# Altium integrated library Xilinx CoolRunner XPLA3.IntLib: 220 symbols (part 6 of 16)
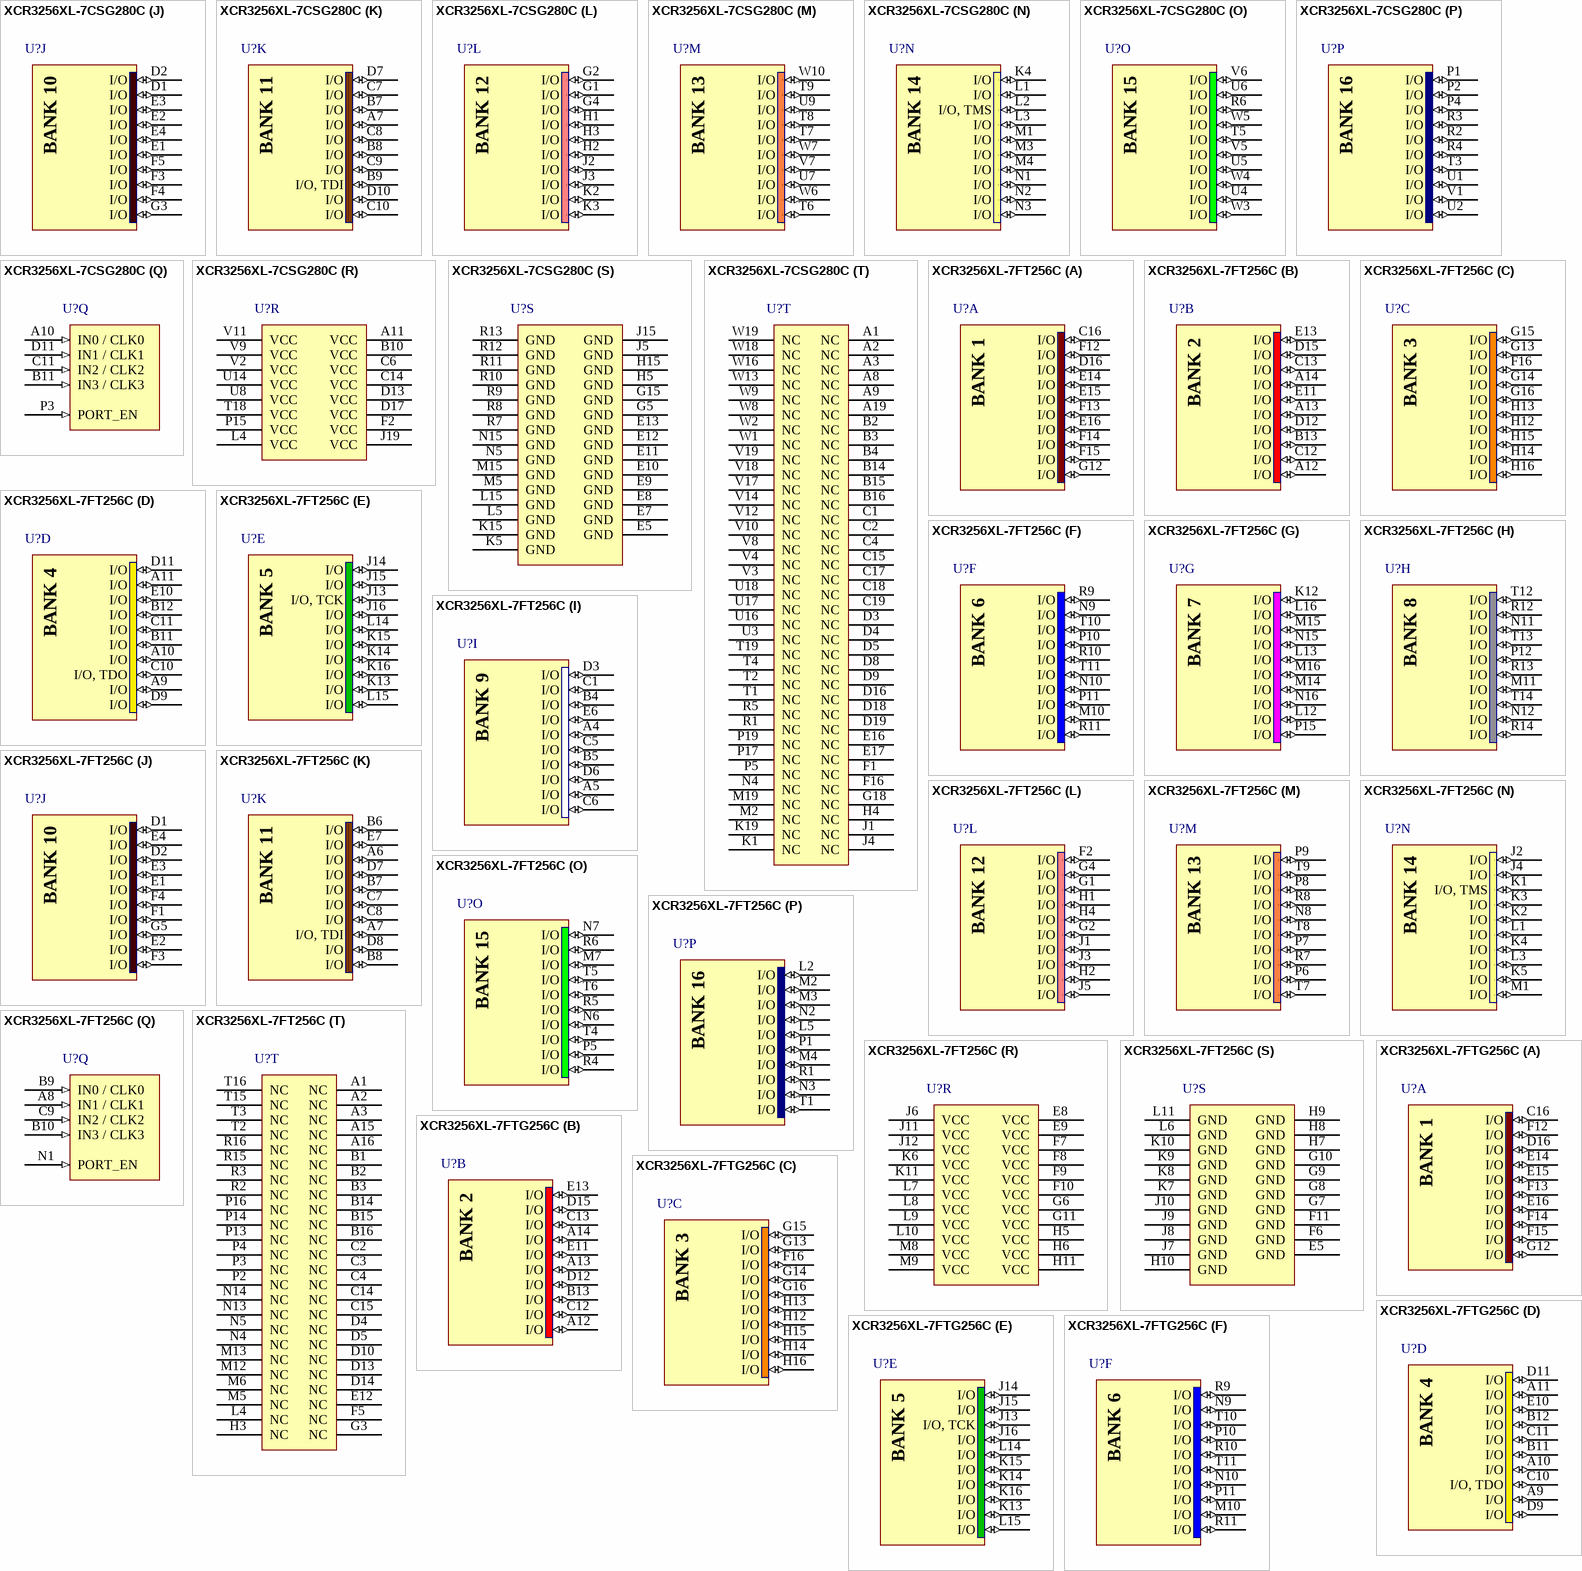
[diagram p88: symbols XCR3256XL-7CSG280C to XCR3256XL-7FTG256C]

## XCR3256XL-7CSG280C
designator U?
CoolRunner XPLA3, 3.3V, 256 Macrocell CPLD, 280-Ball CSBGA, Commercial Grade, Pb-Free; Published: 6-Oct-2005; LatestRevisionDate: 13-Apr-2006; LatestRevisionNote: IPC-7351 Footprint Added.; DatasheetVersion: ver2.7, Mar-2006; PackageVersion: ver1.2.2, Nov-2005; PackageReference: CSG280; Publisher: Altium Limited; PackageDescription: 280-Ball Chip Scale Ball Grid Array (CSG280) - Pb-Free; Code_JEDEC: MO-216-BAL-1 (Depopulated); ComponentLink1Description: Manufacturer Link; ComponentLink1URL: http://www.xilinx.com/products/silicon_solutions/cplds/coolrunner_series/coolrunner_xpla3_cplds/index.htm; ComponentLink2Description: Datasheet; ComponentLink2URL: http://direct.xilinx.com/bvdocs/publications/ds013.pdf
footprint CSG280 (BGA, 280-Leads, Body 16x16mm, Pitch 0.8mm)
3D model XCR3256XL-CS280 (280-Ball Chip Scale Ball Grid Array (CSG280) - Pb-Free)
signal-integrity model XCR3256XL_CS280 (CoolRunner XPLA3)
part A pins: E18 I/O (io), E19 I/O (io), F15 I/O (io), F17 I/O (io), F18 I/O (io), F19 I/O (io), G16 I/O (io), G17 I/O (io), G19 I/O (io), H16 I/O (io)
part B pins: A15 I/O (io), A16 I/O (io), A17 I/O (io), A18 I/O (io), B17 I/O (io), B18 I/O (io), B19 I/O (io), C16 I/O (io), D15 I/O (io), E15 I/O (io)
part C pins: H17 I/O (io), H18 I/O (io), H19 I/O (io), J16 I/O (io), J17 I/O (io), J18 I/O (io), K16 I/O (io), K17 I/O (io), K18 I/O (io), L16 I/O (io)
part D pins: A12 I/O (io), A13 I/O (io), A14 I/O (io), B12 I/O (io), B13 I/O (io), C12 I/O, TDO (io), C13 I/O (io), D12 I/O (io), D14 I/O (io), E14 I/O (io)
part E pins: L17 I/O (io), L18 I/O (io), L19 I/O, TCK (io), M16 I/O (io), M17 I/O (io), M18 I/O (io), N16 I/O (io), N17 I/O (io), N18 I/O (io), N19 I/O (io)
part F pins: T10 I/O (io), T11 I/O (io), T12 I/O (io), U10 I/O (io), U11 I/O (io), U12 I/O (io), U13 I/O (io), V13 I/O (io), W11 I/O (io), W12 I/O (io)
part G pins: P16 I/O (io), P18 I/O (io), R15 I/O (io), R16 I/O (io), R17 I/O (io), R18 I/O (io), R19 I/O (io), T16 I/O (io), T17 I/O (io), U19 I/O (io)
part H pins: R14 I/O (io), T13 I/O (io), T14 I/O (io), T15 I/O (io), U15 I/O (io), V15 I/O (io), V16 I/O (io), W14 I/O (io), W15 I/O (io), W17 I/O (io)
part I pins: A4 I/O (io), A5 I/O (io), A6 I/O (io), B1 I/O (io), B5 I/O (io), B6 I/O (io), C3 I/O (io), C5 I/O (io), D6 I/O (io), E6 I/O (io)
part J pins: D1 I/O (io), D2 I/O (io), E1 I/O (io), E2 I/O (io), E3 I/O (io), E4 I/O (io), F3 I/O (io), F4 I/O (io), F5 I/O (io), G3 I/O (io)
part K pins: A7 I/O (io), B7 I/O (io), B8 I/O (io), B9 I/O, TDI (io), C7 I/O (io), C8 I/O (io), C9 I/O (io), C10 I/O (io), D7 I/O (io), D10 I/O (io)
part L pins: G1 I/O (io), G2 I/O (io), G4 I/O (io), H1 I/O (io), H2 I/O (io), H3 I/O (io), J2 I/O (io), J3 I/O (io), K2 I/O (io), K3 I/O (io)
part M pins: T6 I/O (io), T7 I/O (io), T8 I/O (io), T9 I/O (io), U7 I/O (io), U9 I/O (io), V7 I/O (io), W6 I/O (io), W7 I/O (io), W10 I/O (io)
part N pins: K4 I/O (io), L1 I/O (io), L2 I/O, TMS (io), L3 I/O (io), M1 I/O (io), M3 I/O (io), M4 I/O (io), N1 I/O (io), N2 I/O (io), N3 I/O (io)
part O pins: R6 I/O (io), T5 I/O (io), U4 I/O (io), U5 I/O (io), U6 I/O (io), V5 I/O (io), V6 I/O (io), W3 I/O (io), W4 I/O (io), W5 I/O (io)
part P pins: P1 I/O (io), P2 I/O (io), P4 I/O (io), R2 I/O (io), R3 I/O (io), R4 I/O (io), T3 I/O (io), U1 I/O (io), U2 I/O (io), V1 I/O (io)
part Q pins: A10 IN0 / CLK0 (in), B11 IN3 / CLK3 (in), C11 IN2 / CLK2 (in), D11 IN1 / CLK1 (in), P3 PORT_EN (in)
part R pins: A11 VCC (power), B10 VCC (power), C6 VCC (power), C14 VCC (power), D13 VCC (power), D17 VCC (power), F2 VCC (power), J19 VCC (power), L4 VCC (power), P15 VCC (power), T18 VCC (power), U8 VCC (power), U14 VCC (power), V2 VCC (power), V9 VCC (power), V11 VCC (power)
part S pins: E5 GND (power), E7 GND (power), E8 GND (power), E9 GND (power), E10 GND (power), E11 GND (power), E12 GND (power), E13 GND (power), G5 GND (power), G15 GND (power), H5 GND (power), H15 GND (power), J5 GND (power), J15 GND (power), K5 GND (power), K15 GND (power), L5 GND (power), L15 GND (power), M5 GND (power), M15 GND (power), N5 GND (power), N15 GND (power), R7 GND (power), R8 GND (power), R9 GND (power), R10 GND (power), R11 GND (power), R12 GND (power), R13 GND (power)
part T pins: A1 NC, A2 NC, A3 NC, A8 NC, A9 NC, A19 NC, B2 NC, B3 NC, B4 NC, B14 NC, B15 NC, B16 NC, C1 NC, C2 NC, C4 NC, C15 NC, C17 NC, C18 NC, C19 NC, D3 NC, D4 NC, D5 NC, D8 NC, D9 NC, D16 NC, D18 NC, D19 NC, E16 NC, E17 NC, F1 NC, F16 NC, G18 NC, H4 NC, J1 NC, J4 NC, K1 NC, K19 NC, M2 NC, M19 NC, N4 NC, P5 NC, P17 NC, P19 NC, R1 NC, R5 NC, T1 NC, T2 NC, T4 NC, T19 NC, U3 NC, U16 NC, U17 NC, U18 NC, V3 NC, V4 NC, V8 NC, V10 NC, V12 NC, V14 NC, V17 NC, V18 NC, V19 NC, W1 NC, W2 NC, W8 NC, W9 NC, W13 NC, W16 NC, W18 NC, W19 NC
part A text: BANK 1
part B text: BANK 2
part C text: BANK 3
part D text: BANK 4
part E text: BANK 5
part F text: BANK 6
part G text: BANK 7
part H text: BANK 8
part I text: BANK 9
part J text: BANK 10
part K text: BANK 11
part L text: BANK 12
part M text: BANK 13
part N text: BANK 14
part O text: BANK 15
part P text: BANK 16

## XCR3256XL-7FT256C
designator U?
CoolRunner XPLA3, 3.3V, 256 Macrocell CPLD, 256-Ball FTBGA, Commercial Grade; Published: 17-Jul-2002; LatestRevisionDate: 13-Apr-2006; LatestRevisionNote: IPC-7351 Footprint Added.; DatasheetVersion: ver2.7, Mar-2006; PackageVersion: ver1.2.1, Mar-2005; PackageReference: FT256; Publisher: Altium Limited; PackageDescription: 256-Ball Fine Pitch Thin Ball Grid Array 1.00 mm Pitch (FT256); Code_JEDEC: MS-034-AAF-1*; ComponentLink1Description: Manufacturer Link; ComponentLink1URL: http://www.xilinx.com/products/silicon_solutions/cplds/coolrunner_series/coolrunner_xpla3_cplds/index.htm; ComponentLink2Description: Datasheet; ComponentLink2URL: http://direct.xilinx.com/bvdocs/publications/ds013.pdf
footprint FT256 (BGA, 256-Leads, Body 17x17mm, Pitch 1mm)
3D model XCR3256XL-FT256 (256-Ball Fine Pitch Thin Ball Grid Array 1.00 mm Pitch (FT256))
signal-integrity model XCR3256XL_FT256 (CoolRunner XPLA3)
part A pins: C16 I/O (io), D16 I/O (io), E14 I/O (io), E15 I/O (io), E16 I/O (io), F12 I/O (io), F13 I/O (io), F14 I/O (io), F15 I/O (io), G12 I/O (io)
part B pins: A12 I/O (io), A13 I/O (io), A14 I/O (io), B13 I/O (io), C12 I/O (io), C13 I/O (io), D12 I/O (io), D15 I/O (io), E11 I/O (io), E13 I/O (io)
part C pins: F16 I/O (io), G13 I/O (io), G14 I/O (io), G15 I/O (io), G16 I/O (io), H12 I/O (io), H13 I/O (io), H14 I/O (io), H15 I/O (io), H16 I/O (io)
part D pins: A9 I/O (io), A10 I/O (io), A11 I/O (io), B11 I/O (io), B12 I/O (io), C10 I/O, TDO (io), C11 I/O (io), D9 I/O (io), D11 I/O (io), E10 I/O (io)
part E pins: J13 I/O, TCK (io), J14 I/O (io), J15 I/O (io), J16 I/O (io), K13 I/O (io), K14 I/O (io), K15 I/O (io), K16 I/O (io), L14 I/O (io), L15 I/O (io)
part F pins: M10 I/O (io), N9 I/O (io), N10 I/O (io), P10 I/O (io), P11 I/O (io), R9 I/O (io), R10 I/O (io), R11 I/O (io), T10 I/O (io), T11 I/O (io)
part G pins: K12 I/O (io), L12 I/O (io), L13 I/O (io), L16 I/O (io), M14 I/O (io), M15 I/O (io), M16 I/O (io), N15 I/O (io), N16 I/O (io), P15 I/O (io)
part H pins: M11 I/O (io), N11 I/O (io), N12 I/O (io), P12 I/O (io), R12 I/O (io), R13 I/O (io), R14 I/O (io), T12 I/O (io), T13 I/O (io), T14 I/O (io)
part I pins: A4 I/O (io), A5 I/O (io), B4 I/O (io), B5 I/O (io), C1 I/O (io), C5 I/O (io), C6 I/O (io), D3 I/O (io), D6 I/O (io), E6 I/O (io)
part J pins: D1 I/O (io), D2 I/O (io), E1 I/O (io), E2 I/O (io), E3 I/O (io), E4 I/O (io), F1 I/O (io), F3 I/O (io), F4 I/O (io), G5 I/O (io)
part K pins: A6 I/O (io), A7 I/O, TDI (io), B6 I/O (io), B7 I/O (io), B8 I/O (io), C7 I/O (io), C8 I/O (io), D7 I/O (io), D8 I/O (io), E7 I/O (io)
part L pins: F2 I/O (io), G1 I/O (io), G2 I/O (io), G4 I/O (io), H1 I/O (io), H2 I/O (io), H4 I/O (io), J1 I/O (io), J3 I/O (io), J5 I/O (io)
part M pins: N8 I/O (io), P6 I/O (io), P7 I/O (io), P8 I/O (io), P9 I/O (io), R7 I/O (io), R8 I/O (io), T7 I/O (io), T8 I/O (io), T9 I/O (io)
part N pins: J2 I/O (io), J4 I/O (io), K1 I/O, TMS (io), K2 I/O (io), K3 I/O (io), K4 I/O (io), K5 I/O (io), L1 I/O (io), L3 I/O (io), M1 I/O (io)
part O pins: M7 I/O (io), N6 I/O (io), N7 I/O (io), P5 I/O (io), R4 I/O (io), R5 I/O (io), R6 I/O (io), T4 I/O (io), T5 I/O (io), T6 I/O (io)
part P pins: L2 I/O (io), L5 I/O (io), M2 I/O (io), M3 I/O (io), M4 I/O (io), N2 I/O (io), N3 I/O (io), P1 I/O (io), R1 I/O (io), T1 I/O (io)
part Q pins: A8 IN1 / CLK1 (in), B9 IN0 / CLK0 (in), B10 IN3 / CLK3 (in), C9 IN2 / CLK2 (in), N1 PORT_EN (in)
part R pins: E8 VCC (power), E9 VCC (power), F7 VCC (power), F8 VCC (power), F9 VCC (power), F10 VCC (power), G6 VCC (power), G11 VCC (power), H5 VCC (power), H6 VCC (power), H11 VCC (power), J6 VCC (power), J11 VCC (power), J12 VCC (power), K6 VCC (power), K11 VCC (power), L7 VCC (power), L8 VCC (power), L9 VCC (power), L10 VCC (power), M8 VCC (power), M9 VCC (power)
part S pins: E5 GND (power), F6 GND (power), F11 GND (power), G7 GND (power), G8 GND (power), G9 GND (power), G10 GND (power), H7 GND (power), H8 GND (power), H9 GND (power), H10 GND (power), J7 GND (power), J8 GND (power), J9 GND (power), J10 GND (power), K7 GND (power), K8 GND (power), K9 GND (power), K10 GND (power), L6 GND (power), L11 GND (power)
part T pins: A1 NC, A2 NC, A3 NC, A15 NC, A16 NC, B1 NC, B2 NC, B3 NC, B14 NC, B15 NC, B16 NC, C2 NC, C3 NC, C4 NC, C14 NC, C15 NC, D4 NC, D5 NC, D10 NC, D13 NC, D14 NC, E12 NC, F5 NC, G3 NC, H3 NC, L4 NC, M5 NC, M6 NC, M12 NC, M13 NC, N4 NC, N5 NC, N13 NC, N14 NC, P2 NC, P3 NC, P4 NC, P13 NC, P14 NC, P16 NC, R2 NC, R3 NC, R15 NC, R16 NC, T2 NC, T3 NC, T15 NC, T16 NC
part A text: BANK 1
part B text: BANK 2
part C text: BANK 3
part D text: BANK 4
part E text: BANK 5
part F text: BANK 6
part G text: BANK 7
part H text: BANK 8
part I text: BANK 9
part J text: BANK 10
part K text: BANK 11
part L text: BANK 12
part M text: BANK 13
part N text: BANK 14
part O text: BANK 15
part P text: BANK 16

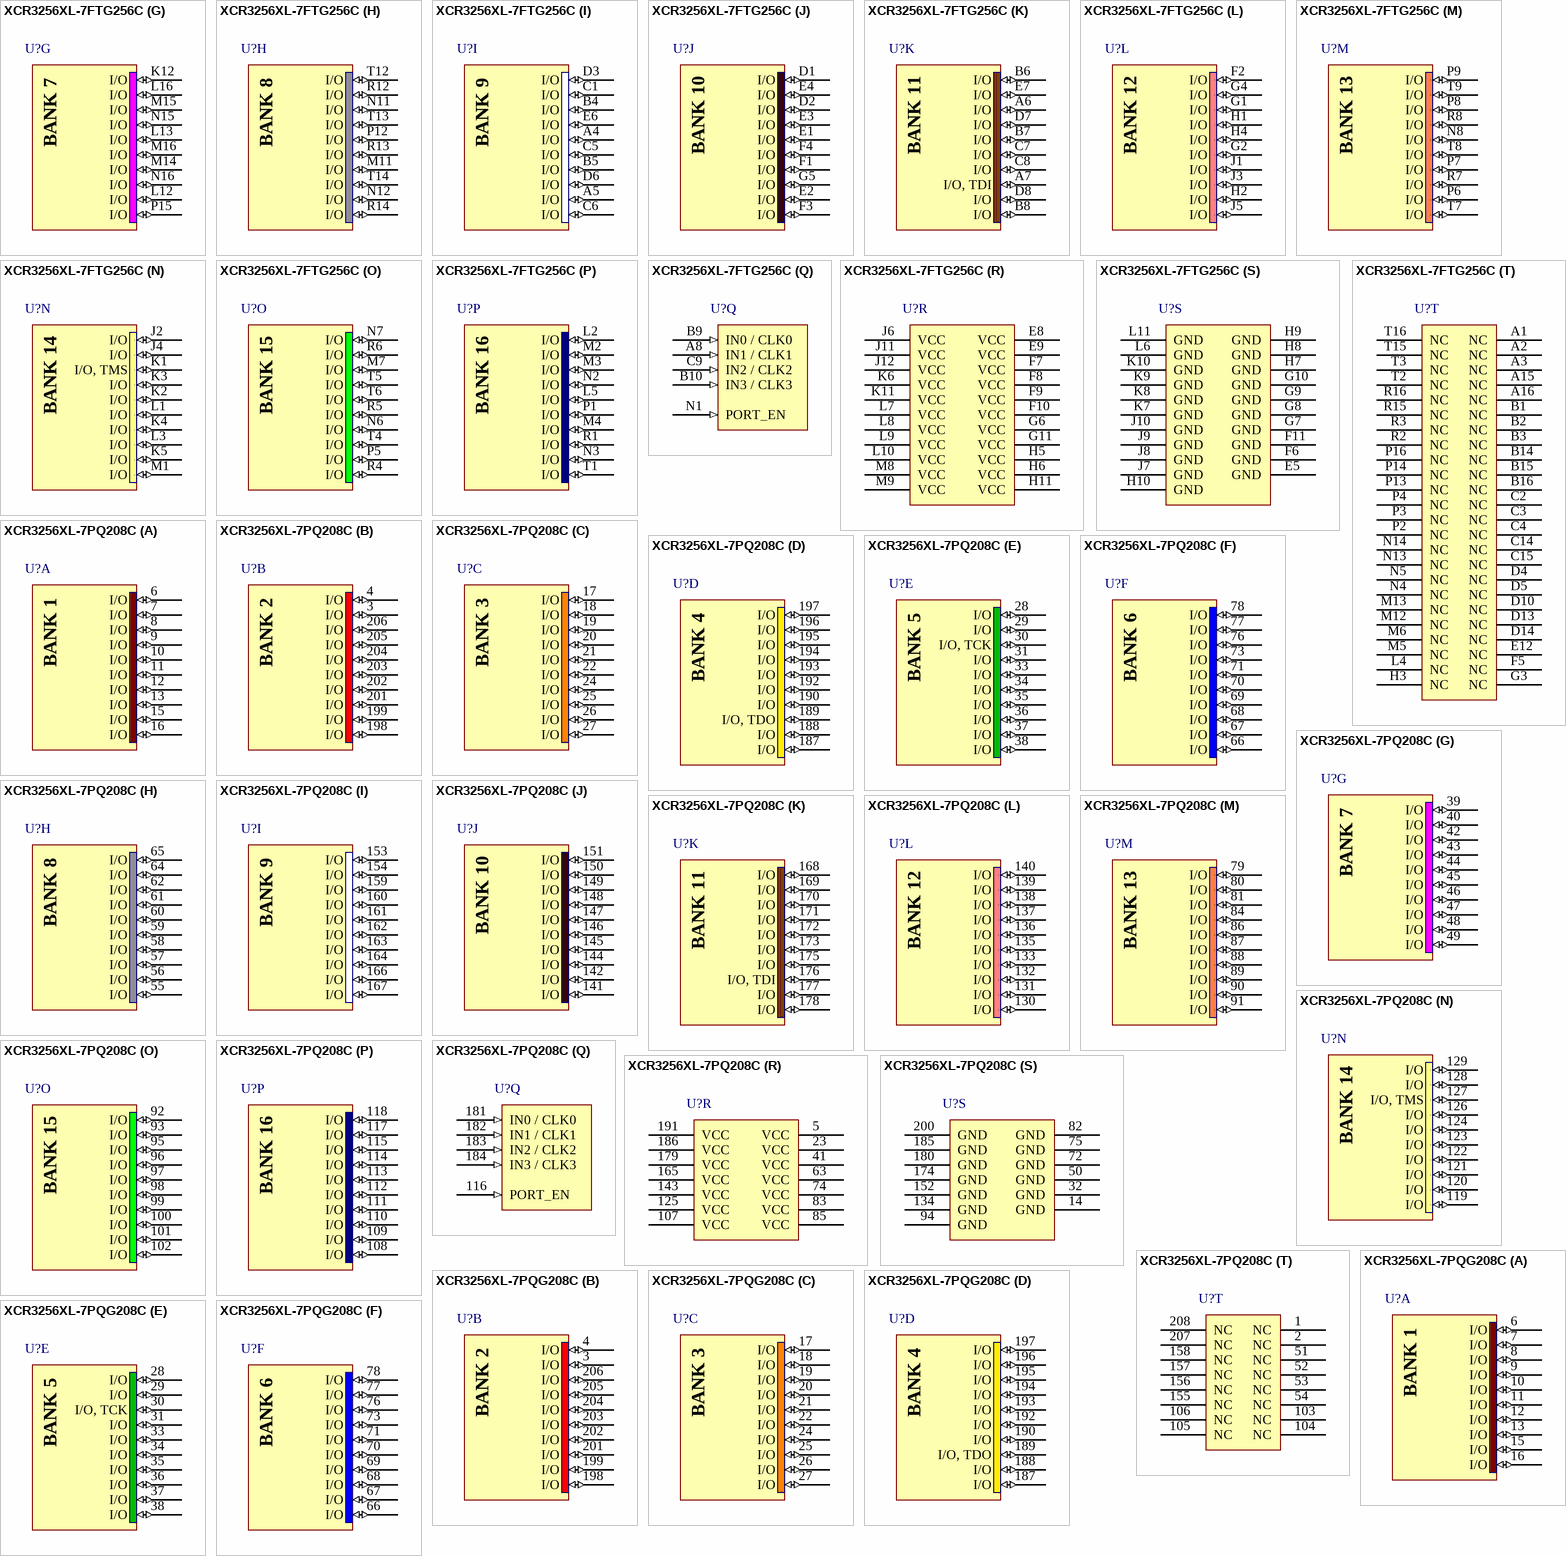
[diagram p24: symbols XCR3256XL-7FTG256C to XCR3256XL-7PQG208C]

## XCR3256XL-7FTG256C
designator U?
CoolRunner XPLA3, 3.3V, 256 Macrocell CPLD, 256-Ball FTBGA, Commercial Grade, Pb-Free; ComponentAvailability: Not referenced in latest datasheet.; Published: 6-Oct-2005; LatestRevisionDate: 13-Apr-2006; LatestRevisionNote: IPC-7351 Footprint Added.; DatasheetVersion: ver2.6, Apr-2005; PackageVersion: ver1.2.1, Mar-2005; PackageReference: FTG256; Publisher: Altium Limited; PackageDescription: 256-Ball Fine Pitch Thin Ball Grid Array 1.00 mm Pitch (FTG256) - Pb-Free; Code_JEDEC: MS-034-AAF-1*; ComponentLink1Description: Manufacturer Link; ComponentLink1URL: http://www.xilinx.com/products/silicon_solutions/cplds/coolrunner_series/coolrunner_xpla3_cplds/index.htm; ComponentLink2Description: Datasheet; ComponentLink2URL: http://direct.xilinx.com/bvdocs/publications/ds013.pdf
footprint FTG256 (BGA, 256-Leads, Body 17x17mm, Pitch 1mm)
3D model XCR3256XL-FT256 (256-Ball Fine Pitch Thin Ball Grid Array 1.00 mm Pitch (FTG256) - Pb-Free)
signal-integrity model XCR3256XL_FT256 (CoolRunner XPLA3)
part A pins: C16 I/O (io), D16 I/O (io), E14 I/O (io), E15 I/O (io), E16 I/O (io), F12 I/O (io), F13 I/O (io), F14 I/O (io), F15 I/O (io), G12 I/O (io)
part B pins: A12 I/O (io), A13 I/O (io), A14 I/O (io), B13 I/O (io), C12 I/O (io), C13 I/O (io), D12 I/O (io), D15 I/O (io), E11 I/O (io), E13 I/O (io)
part C pins: F16 I/O (io), G13 I/O (io), G14 I/O (io), G15 I/O (io), G16 I/O (io), H12 I/O (io), H13 I/O (io), H14 I/O (io), H15 I/O (io), H16 I/O (io)
part D pins: A9 I/O (io), A10 I/O (io), A11 I/O (io), B11 I/O (io), B12 I/O (io), C10 I/O, TDO (io), C11 I/O (io), D9 I/O (io), D11 I/O (io), E10 I/O (io)
part E pins: J13 I/O, TCK (io), J14 I/O (io), J15 I/O (io), J16 I/O (io), K13 I/O (io), K14 I/O (io), K15 I/O (io), K16 I/O (io), L14 I/O (io), L15 I/O (io)
part F pins: M10 I/O (io), N9 I/O (io), N10 I/O (io), P10 I/O (io), P11 I/O (io), R9 I/O (io), R10 I/O (io), R11 I/O (io), T10 I/O (io), T11 I/O (io)
part G pins: K12 I/O (io), L12 I/O (io), L13 I/O (io), L16 I/O (io), M14 I/O (io), M15 I/O (io), M16 I/O (io), N15 I/O (io), N16 I/O (io), P15 I/O (io)
part H pins: M11 I/O (io), N11 I/O (io), N12 I/O (io), P12 I/O (io), R12 I/O (io), R13 I/O (io), R14 I/O (io), T12 I/O (io), T13 I/O (io), T14 I/O (io)
part I pins: A4 I/O (io), A5 I/O (io), B4 I/O (io), B5 I/O (io), C1 I/O (io), C5 I/O (io), C6 I/O (io), D3 I/O (io), D6 I/O (io), E6 I/O (io)
part J pins: D1 I/O (io), D2 I/O (io), E1 I/O (io), E2 I/O (io), E3 I/O (io), E4 I/O (io), F1 I/O (io), F3 I/O (io), F4 I/O (io), G5 I/O (io)
part K pins: A6 I/O (io), A7 I/O, TDI (io), B6 I/O (io), B7 I/O (io), B8 I/O (io), C7 I/O (io), C8 I/O (io), D7 I/O (io), D8 I/O (io), E7 I/O (io)
part L pins: F2 I/O (io), G1 I/O (io), G2 I/O (io), G4 I/O (io), H1 I/O (io), H2 I/O (io), H4 I/O (io), J1 I/O (io), J3 I/O (io), J5 I/O (io)
part M pins: N8 I/O (io), P6 I/O (io), P7 I/O (io), P8 I/O (io), P9 I/O (io), R7 I/O (io), R8 I/O (io), T7 I/O (io), T8 I/O (io), T9 I/O (io)
part N pins: J2 I/O (io), J4 I/O (io), K1 I/O, TMS (io), K2 I/O (io), K3 I/O (io), K4 I/O (io), K5 I/O (io), L1 I/O (io), L3 I/O (io), M1 I/O (io)
part O pins: M7 I/O (io), N6 I/O (io), N7 I/O (io), P5 I/O (io), R4 I/O (io), R5 I/O (io), R6 I/O (io), T4 I/O (io), T5 I/O (io), T6 I/O (io)
part P pins: L2 I/O (io), L5 I/O (io), M2 I/O (io), M3 I/O (io), M4 I/O (io), N2 I/O (io), N3 I/O (io), P1 I/O (io), R1 I/O (io), T1 I/O (io)
part Q pins: A8 IN1 / CLK1 (in), B9 IN0 / CLK0 (in), B10 IN3 / CLK3 (in), C9 IN2 / CLK2 (in), N1 PORT_EN (in)
part R pins: E8 VCC (power), E9 VCC (power), F7 VCC (power), F8 VCC (power), F9 VCC (power), F10 VCC (power), G6 VCC (power), G11 VCC (power), H5 VCC (power), H6 VCC (power), H11 VCC (power), J6 VCC (power), J11 VCC (power), J12 VCC (power), K6 VCC (power), K11 VCC (power), L7 VCC (power), L8 VCC (power), L9 VCC (power), L10 VCC (power), M8 VCC (power), M9 VCC (power)
part S pins: E5 GND (power), F6 GND (power), F11 GND (power), G7 GND (power), G8 GND (power), G9 GND (power), G10 GND (power), H7 GND (power), H8 GND (power), H9 GND (power), H10 GND (power), J7 GND (power), J8 GND (power), J9 GND (power), J10 GND (power), K7 GND (power), K8 GND (power), K9 GND (power), K10 GND (power), L6 GND (power), L11 GND (power)
part T pins: A1 NC, A2 NC, A3 NC, A15 NC, A16 NC, B1 NC, B2 NC, B3 NC, B14 NC, B15 NC, B16 NC, C2 NC, C3 NC, C4 NC, C14 NC, C15 NC, D4 NC, D5 NC, D10 NC, D13 NC, D14 NC, E12 NC, F5 NC, G3 NC, H3 NC, L4 NC, M5 NC, M6 NC, M12 NC, M13 NC, N4 NC, N5 NC, N13 NC, N14 NC, P2 NC, P3 NC, P4 NC, P13 NC, P14 NC, P16 NC, R2 NC, R3 NC, R15 NC, R16 NC, T2 NC, T3 NC, T15 NC, T16 NC
part A text: BANK 1
part B text: BANK 2
part C text: BANK 3
part D text: BANK 4
part E text: BANK 5
part F text: BANK 6
part G text: BANK 7
part H text: BANK 8
part I text: BANK 9
part J text: BANK 10
part K text: BANK 11
part L text: BANK 12
part M text: BANK 13
part N text: BANK 14
part O text: BANK 15
part P text: BANK 16

## XCR3256XL-7PQ208C
designator U?
CoolRunner XPLA3, 3.3V, 256 Macrocell CPLD, 208-Pin PQFP, Commercial Grade; Published: 17-Jul-2002; LatestRevisionDate: 13-Apr-2006; LatestRevisionNote: IPC-7351 Footprint Added.; DatasheetVersion: ver2.7, Mar-2006; PackageVersion: ver1.2, Jun-2004; PackageReference: PQ208; Publisher: Altium Limited; PackageDescription: 208-Pin Plastic Quad Flat Pack (PQ208); Code_JEDEC: MS-029-FA-1; ComponentLink1Description: Manufacturer Link; ComponentLink1URL: http://www.xilinx.com/products/silicon_solutions/cplds/coolrunner_series/coolrunner_xpla3_cplds/index.htm; ComponentLink2Description: Datasheet; ComponentLink2URL: http://direct.xilinx.com/bvdocs/publications/ds013.pdf
footprint PQ208_N (Shrink QFP, 208-Leads, Body 28x28mm, Pitch 0.5mm, IPC Medium Density)
footprint PQ208_L (Shrink QFP, 208-Leads, Body 28x28mm, Pitch 0.5mm, IPC High Density)
footprint PQ208_M (Shrink QFP, 208-Leads, Body 28x28mm, Pitch 0.5mm, IPC Low Density)
3D model XCR3256XL-PQ208 (208-Pin Plastic Quad Flat Pack (PQ208))
signal-integrity model XCR3256XL_PQ208 (CoolRunner XPLA3)
part A pins: 6 I/O (io), 7 I/O (io), 8 I/O (io), 9 I/O (io), 10 I/O (io), 11 I/O (io), 12 I/O (io), 13 I/O (io), 15 I/O (io), 16 I/O (io)
part B pins: 3 I/O (io), 4 I/O (io), 198 I/O (io), 199 I/O (io), 201 I/O (io), 202 I/O (io), 203 I/O (io), 204 I/O (io), 205 I/O (io), 206 I/O (io)
part C pins: 17 I/O (io), 18 I/O (io), 19 I/O (io), 20 I/O (io), 21 I/O (io), 22 I/O (io), 24 I/O (io), 25 I/O (io), 26 I/O (io), 27 I/O (io)
part D pins: 187 I/O (io), 188 I/O (io), 189 I/O, TDO (io), 190 I/O (io), 192 I/O (io), 193 I/O (io), 194 I/O (io), 195 I/O (io), 196 I/O (io), 197 I/O (io)
part E pins: 28 I/O (io), 29 I/O (io), 30 I/O, TCK (io), 31 I/O (io), 33 I/O (io), 34 I/O (io), 35 I/O (io), 36 I/O (io), 37 I/O (io), 38 I/O (io)
part F pins: 66 I/O (io), 67 I/O (io), 68 I/O (io), 69 I/O (io), 70 I/O (io), 71 I/O (io), 73 I/O (io), 76 I/O (io), 77 I/O (io), 78 I/O (io)
part G pins: 39 I/O (io), 40 I/O (io), 42 I/O (io), 43 I/O (io), 44 I/O (io), 45 I/O (io), 46 I/O (io), 47 I/O (io), 48 I/O (io), 49 I/O (io)
part H pins: 55 I/O (io), 56 I/O (io), 57 I/O (io), 58 I/O (io), 59 I/O (io), 60 I/O (io), 61 I/O (io), 62 I/O (io), 64 I/O (io), 65 I/O (io)
part I pins: 153 I/O (io), 154 I/O (io), 159 I/O (io), 160 I/O (io), 161 I/O (io), 162 I/O (io), 163 I/O (io), 164 I/O (io), 166 I/O (io), 167 I/O (io)
part J pins: 141 I/O (io), 142 I/O (io), 144 I/O (io), 145 I/O (io), 146 I/O (io), 147 I/O (io), 148 I/O (io), 149 I/O (io), 150 I/O (io), 151 I/O (io)
part K pins: 168 I/O (io), 169 I/O (io), 170 I/O (io), 171 I/O (io), 172 I/O (io), 173 I/O (io), 175 I/O (io), 176 I/O, TDI (io), 177 I/O (io), 178 I/O (io)
part L pins: 130 I/O (io), 131 I/O (io), 132 I/O (io), 133 I/O (io), 135 I/O (io), 136 I/O (io), 137 I/O (io), 138 I/O (io), 139 I/O (io), 140 I/O (io)
part M pins: 79 I/O (io), 80 I/O (io), 81 I/O (io), 84 I/O (io), 86 I/O (io), 87 I/O (io), 88 I/O (io), 89 I/O (io), 90 I/O (io), 91 I/O (io)
part N pins: 119 I/O (io), 120 I/O (io), 121 I/O (io), 122 I/O (io), 123 I/O (io), 124 I/O (io), 126 I/O (io), 127 I/O, TMS (io), 128 I/O (io), 129 I/O (io)
part O pins: 92 I/O (io), 93 I/O (io), 95 I/O (io), 96 I/O (io), 97 I/O (io), 98 I/O (io), 99 I/O (io), 100 I/O (io), 101 I/O (io), 102 I/O (io)
part P pins: 108 I/O (io), 109 I/O (io), 110 I/O (io), 111 I/O (io), 112 I/O (io), 113 I/O (io), 114 I/O (io), 115 I/O (io), 117 I/O (io), 118 I/O (io)
part Q pins: 116 PORT_EN (in), 181 IN0 / CLK0 (in), 182 IN1 / CLK1 (in), 183 IN2 / CLK2 (in), 184 IN3 / CLK3 (in)
part R pins: 5 VCC (power), 23 VCC (power), 41 VCC (power), 63 VCC (power), 74 VCC (power), 83 VCC (power), 85 VCC (power), 107 VCC (power), 125 VCC (power), 143 VCC (power), 165 VCC (power), 179 VCC (power), 186 VCC (power), 191 VCC (power)
part S pins: 14 GND (power), 32 GND (power), 50 GND (power), 72 GND (power), 75 GND (power), 82 GND (power), 94 GND (power), 134 GND (power), 152 GND (power), 174 GND (power), 180 GND (power), 185 GND (power), 200 GND (power)
part T pins: 1 NC, 2 NC, 51 NC, 52 NC, 53 NC, 54 NC, 103 NC, 104 NC, 105 NC, 106 NC, 155 NC, 156 NC, 157 NC, 158 NC, 207 NC, 208 NC
part A text: BANK 1
part B text: BANK 2
part C text: BANK 3
part D text: BANK 4
part E text: BANK 5
part F text: BANK 6
part G text: BANK 7
part H text: BANK 8
part I text: BANK 9
part J text: BANK 10
part K text: BANK 11
part L text: BANK 12
part M text: BANK 13
part N text: BANK 14
part O text: BANK 15
part P text: BANK 16

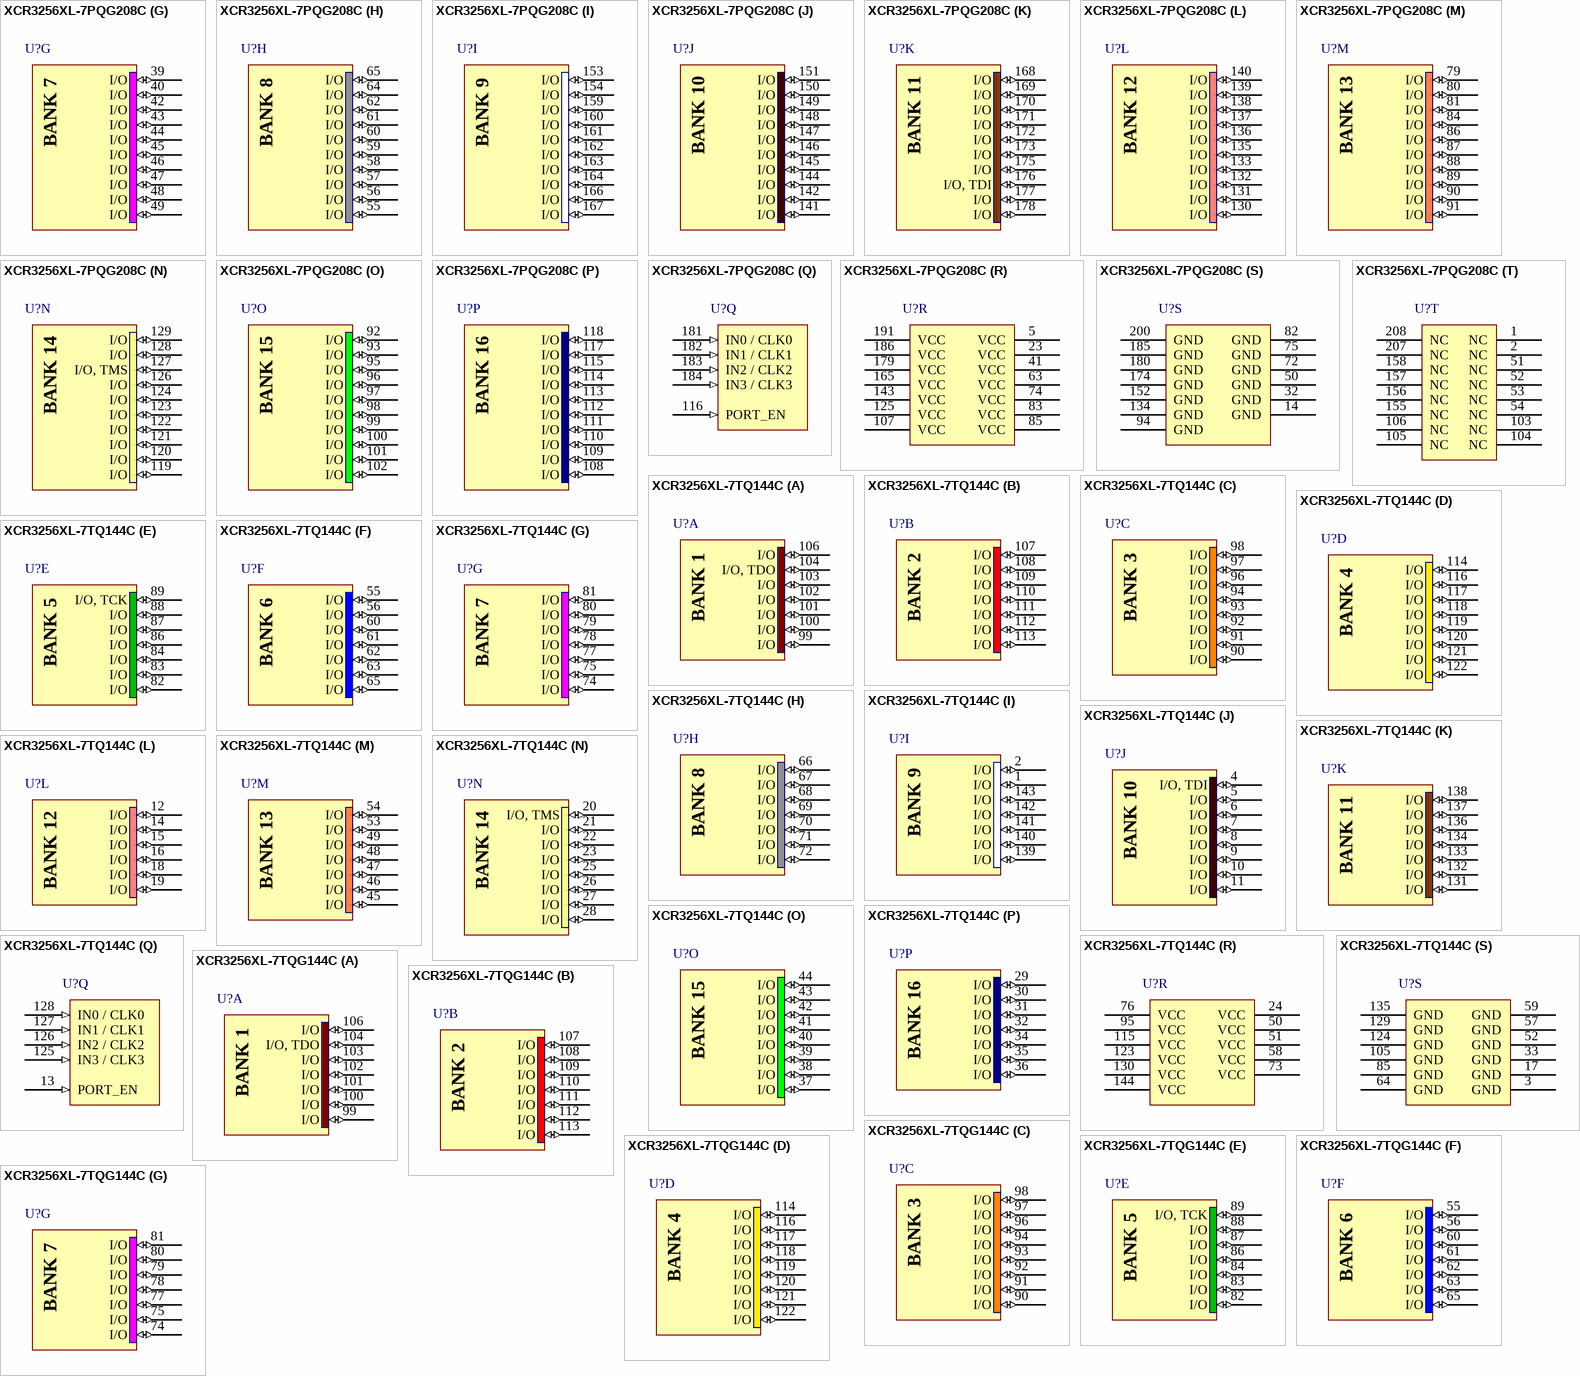
[diagram p25: symbols XCR3256XL-7PQG208C to XCR3256XL-7TQG144C]

## XCR3256XL-7PQG208C
designator U?
CoolRunner XPLA3, 3.3V, 256 Macrocell CPLD, 208-Pin PQFP, Commercial Grade, Pb-Free; Published: 6-Oct-2005; LatestRevisionDate: 13-Apr-2006; LatestRevisionNote: IPC-7351 Footprint Added.; DatasheetVersion: ver2.7, Mar-2006; PackageVersion: ver1.2, Jun-2004; PackageReference: PQG208; Publisher: Altium Limited; PackageDescription: 208-Pin Plastic Quad Flat Pack (PQG208) - Pb-Free; Code_JEDEC: MS-029-FA-1; ComponentLink1Description: Manufacturer Link; ComponentLink1URL: http://www.xilinx.com/products/silicon_solutions/cplds/coolrunner_series/coolrunner_xpla3_cplds/index.htm; ComponentLink2Description: Datasheet; ComponentLink2URL: http://direct.xilinx.com/bvdocs/publications/ds013.pdf
footprint PQG208_N (Shrink QFP, 208-Leads, Body 28x28mm, Pitch 0.5mm, IPC Medium Density)
footprint PQG208_L (Shrink QFP, 208-Leads, Body 28x28mm, Pitch 0.5mm, IPC High Density)
footprint PQG208_M (Shrink QFP, 208-Leads, Body 28x28mm, Pitch 0.5mm, IPC Low Density)
3D model XCR3256XL-PQ208 (208-Pin Plastic Quad Flat Pack (PQG208) - Pb-Free)
signal-integrity model XCR3256XL_PQ208 (CoolRunner XPLA3)
part A pins: 6 I/O (io), 7 I/O (io), 8 I/O (io), 9 I/O (io), 10 I/O (io), 11 I/O (io), 12 I/O (io), 13 I/O (io), 15 I/O (io), 16 I/O (io)
part B pins: 3 I/O (io), 4 I/O (io), 198 I/O (io), 199 I/O (io), 201 I/O (io), 202 I/O (io), 203 I/O (io), 204 I/O (io), 205 I/O (io), 206 I/O (io)
part C pins: 17 I/O (io), 18 I/O (io), 19 I/O (io), 20 I/O (io), 21 I/O (io), 22 I/O (io), 24 I/O (io), 25 I/O (io), 26 I/O (io), 27 I/O (io)
part D pins: 187 I/O (io), 188 I/O (io), 189 I/O, TDO (io), 190 I/O (io), 192 I/O (io), 193 I/O (io), 194 I/O (io), 195 I/O (io), 196 I/O (io), 197 I/O (io)
part E pins: 28 I/O (io), 29 I/O (io), 30 I/O, TCK (io), 31 I/O (io), 33 I/O (io), 34 I/O (io), 35 I/O (io), 36 I/O (io), 37 I/O (io), 38 I/O (io)
part F pins: 66 I/O (io), 67 I/O (io), 68 I/O (io), 69 I/O (io), 70 I/O (io), 71 I/O (io), 73 I/O (io), 76 I/O (io), 77 I/O (io), 78 I/O (io)
part G pins: 39 I/O (io), 40 I/O (io), 42 I/O (io), 43 I/O (io), 44 I/O (io), 45 I/O (io), 46 I/O (io), 47 I/O (io), 48 I/O (io), 49 I/O (io)
part H pins: 55 I/O (io), 56 I/O (io), 57 I/O (io), 58 I/O (io), 59 I/O (io), 60 I/O (io), 61 I/O (io), 62 I/O (io), 64 I/O (io), 65 I/O (io)
part I pins: 153 I/O (io), 154 I/O (io), 159 I/O (io), 160 I/O (io), 161 I/O (io), 162 I/O (io), 163 I/O (io), 164 I/O (io), 166 I/O (io), 167 I/O (io)
part J pins: 141 I/O (io), 142 I/O (io), 144 I/O (io), 145 I/O (io), 146 I/O (io), 147 I/O (io), 148 I/O (io), 149 I/O (io), 150 I/O (io), 151 I/O (io)
part K pins: 168 I/O (io), 169 I/O (io), 170 I/O (io), 171 I/O (io), 172 I/O (io), 173 I/O (io), 175 I/O (io), 176 I/O, TDI (io), 177 I/O (io), 178 I/O (io)
part L pins: 130 I/O (io), 131 I/O (io), 132 I/O (io), 133 I/O (io), 135 I/O (io), 136 I/O (io), 137 I/O (io), 138 I/O (io), 139 I/O (io), 140 I/O (io)
part M pins: 79 I/O (io), 80 I/O (io), 81 I/O (io), 84 I/O (io), 86 I/O (io), 87 I/O (io), 88 I/O (io), 89 I/O (io), 90 I/O (io), 91 I/O (io)
part N pins: 119 I/O (io), 120 I/O (io), 121 I/O (io), 122 I/O (io), 123 I/O (io), 124 I/O (io), 126 I/O (io), 127 I/O, TMS (io), 128 I/O (io), 129 I/O (io)
part O pins: 92 I/O (io), 93 I/O (io), 95 I/O (io), 96 I/O (io), 97 I/O (io), 98 I/O (io), 99 I/O (io), 100 I/O (io), 101 I/O (io), 102 I/O (io)
part P pins: 108 I/O (io), 109 I/O (io), 110 I/O (io), 111 I/O (io), 112 I/O (io), 113 I/O (io), 114 I/O (io), 115 I/O (io), 117 I/O (io), 118 I/O (io)
part Q pins: 116 PORT_EN (in), 181 IN0 / CLK0 (in), 182 IN1 / CLK1 (in), 183 IN2 / CLK2 (in), 184 IN3 / CLK3 (in)
part R pins: 5 VCC (power), 23 VCC (power), 41 VCC (power), 63 VCC (power), 74 VCC (power), 83 VCC (power), 85 VCC (power), 107 VCC (power), 125 VCC (power), 143 VCC (power), 165 VCC (power), 179 VCC (power), 186 VCC (power), 191 VCC (power)
part S pins: 14 GND (power), 32 GND (power), 50 GND (power), 72 GND (power), 75 GND (power), 82 GND (power), 94 GND (power), 134 GND (power), 152 GND (power), 174 GND (power), 180 GND (power), 185 GND (power), 200 GND (power)
part T pins: 1 NC, 2 NC, 51 NC, 52 NC, 53 NC, 54 NC, 103 NC, 104 NC, 105 NC, 106 NC, 155 NC, 156 NC, 157 NC, 158 NC, 207 NC, 208 NC
part A text: BANK 1
part B text: BANK 2
part C text: BANK 3
part D text: BANK 4
part E text: BANK 5
part F text: BANK 6
part G text: BANK 7
part H text: BANK 8
part I text: BANK 9
part J text: BANK 10
part K text: BANK 11
part L text: BANK 12
part M text: BANK 13
part N text: BANK 14
part O text: BANK 15
part P text: BANK 16

## XCR3256XL-7TQ144C
designator U?
CoolRunner XPLA3, 3.3V, 256 Macrocell CPLD, 144-Pin TQFP, Commercial Grade; Published: 17-Jul-2002; LatestRevisionDate: 13-Apr-2006; LatestRevisionNote: IPC-7351 Footprint Added.; DatasheetVersion: ver2.7, Mar-2006; PackageVersion: ver1.2, Jun-2004; PackageReference: TQ144; Publisher: Altium Limited; PackageDescription: 144-Pin Thin Quad Flat Pack (TQ144); Code_JEDEC: MS-026-BFB; ComponentLink1Description: Manufacturer Link; ComponentLink1URL: http://www.xilinx.com/products/silicon_solutions/cplds/coolrunner_series/coolrunner_xpla3_cplds/index.htm; ComponentLink2Description: Datasheet; ComponentLink2URL: http://direct.xilinx.com/bvdocs/publications/ds013.pdf
footprint TQ144_N (Thin QFP, 144-Leads, Body 20x20mm, Pitch 0.5mm, IPC Medium Density)
footprint TQ144_L (Thin QFP, 144-Leads, Body 20x20mm, Pitch 0.5mm, IPC High Density)
footprint TQ144_M (Thin QFP, 144-Leads, Body 20x20mm, Pitch 0.5mm, IPC Low Density)
3D model XCR3256XL-TQ144 (144-Pin Thin Quad Flat Pack (TQ144))
signal-integrity model XCR3256XL_TQ144 (CoolRunner XPLA3)
part A pins: 99 I/O (io), 100 I/O (io), 101 I/O (io), 102 I/O (io), 103 I/O (io), 104 I/O, TDO (io), 106 I/O (io)
part B pins: 107 I/O (io), 108 I/O (io), 109 I/O (io), 110 I/O (io), 111 I/O (io), 112 I/O (io), 113 I/O (io)
part C pins: 90 I/O (io), 91 I/O (io), 92 I/O (io), 93 I/O (io), 94 I/O (io), 96 I/O (io), 97 I/O (io), 98 I/O (io)
part D pins: 114 I/O (io), 116 I/O (io), 117 I/O (io), 118 I/O (io), 119 I/O (io), 120 I/O (io), 121 I/O (io), 122 I/O (io)
part E pins: 82 I/O (io), 83 I/O (io), 84 I/O (io), 86 I/O (io), 87 I/O (io), 88 I/O (io), 89 I/O, TCK (io)
part F pins: 55 I/O (io), 56 I/O (io), 60 I/O (io), 61 I/O (io), 62 I/O (io), 63 I/O (io), 65 I/O (io)
part G pins: 74 I/O (io), 75 I/O (io), 77 I/O (io), 78 I/O (io), 79 I/O (io), 80 I/O (io), 81 I/O (io)
part H pins: 66 I/O (io), 67 I/O (io), 68 I/O (io), 69 I/O (io), 70 I/O (io), 71 I/O (io), 72 I/O (io)
part I pins: 1 I/O (io), 2 I/O (io), 139 I/O (io), 140 I/O (io), 141 I/O (io), 142 I/O (io), 143 I/O (io)
part J pins: 4 I/O, TDI (io), 5 I/O (io), 6 I/O (io), 7 I/O (io), 8 I/O (io), 9 I/O (io), 10 I/O (io), 11 I/O (io)
part K pins: 131 I/O (io), 132 I/O (io), 133 I/O (io), 134 I/O (io), 136 I/O (io), 137 I/O (io), 138 I/O (io)
part L pins: 12 I/O (io), 14 I/O (io), 15 I/O (io), 16 I/O (io), 18 I/O (io), 19 I/O (io)
part M pins: 45 I/O (io), 46 I/O (io), 47 I/O (io), 48 I/O (io), 49 I/O (io), 53 I/O (io), 54 I/O (io)
part N pins: 20 I/O, TMS (io), 21 I/O (io), 22 I/O (io), 23 I/O (io), 25 I/O (io), 26 I/O (io), 27 I/O (io), 28 I/O (io)
part O pins: 37 I/O (io), 38 I/O (io), 39 I/O (io), 40 I/O (io), 41 I/O (io), 42 I/O (io), 43 I/O (io), 44 I/O (io)
part P pins: 29 I/O (io), 30 I/O (io), 31 I/O (io), 32 I/O (io), 34 I/O (io), 35 I/O (io), 36 I/O (io)
part Q pins: 13 PORT_EN (in), 125 IN3 / CLK3 (in), 126 IN2 / CLK2 (in), 127 IN1 / CLK1 (in), 128 IN0 / CLK0 (in)
part R pins: 24 VCC (power), 50 VCC (power), 51 VCC (power), 58 VCC (power), 73 VCC (power), 76 VCC (power), 95 VCC (power), 115 VCC (power), 123 VCC (power), 130 VCC (power), 144 VCC (power)
part S pins: 3 GND (power), 17 GND (power), 33 GND (power), 52 GND (power), 57 GND (power), 59 GND (power), 64 GND (power), 85 GND (power), 105 GND (power), 124 GND (power), 129 GND (power), 135 GND (power)
part A text: BANK 1
part B text: BANK 2
part C text: BANK 3
part D text: BANK 4
part E text: BANK 5
part F text: BANK 6
part G text: BANK 7
part H text: BANK 8
part I text: BANK 9
part J text: BANK 10
part K text: BANK 11
part L text: BANK 12
part M text: BANK 13
part N text: BANK 14
part O text: BANK 15
part P text: BANK 16

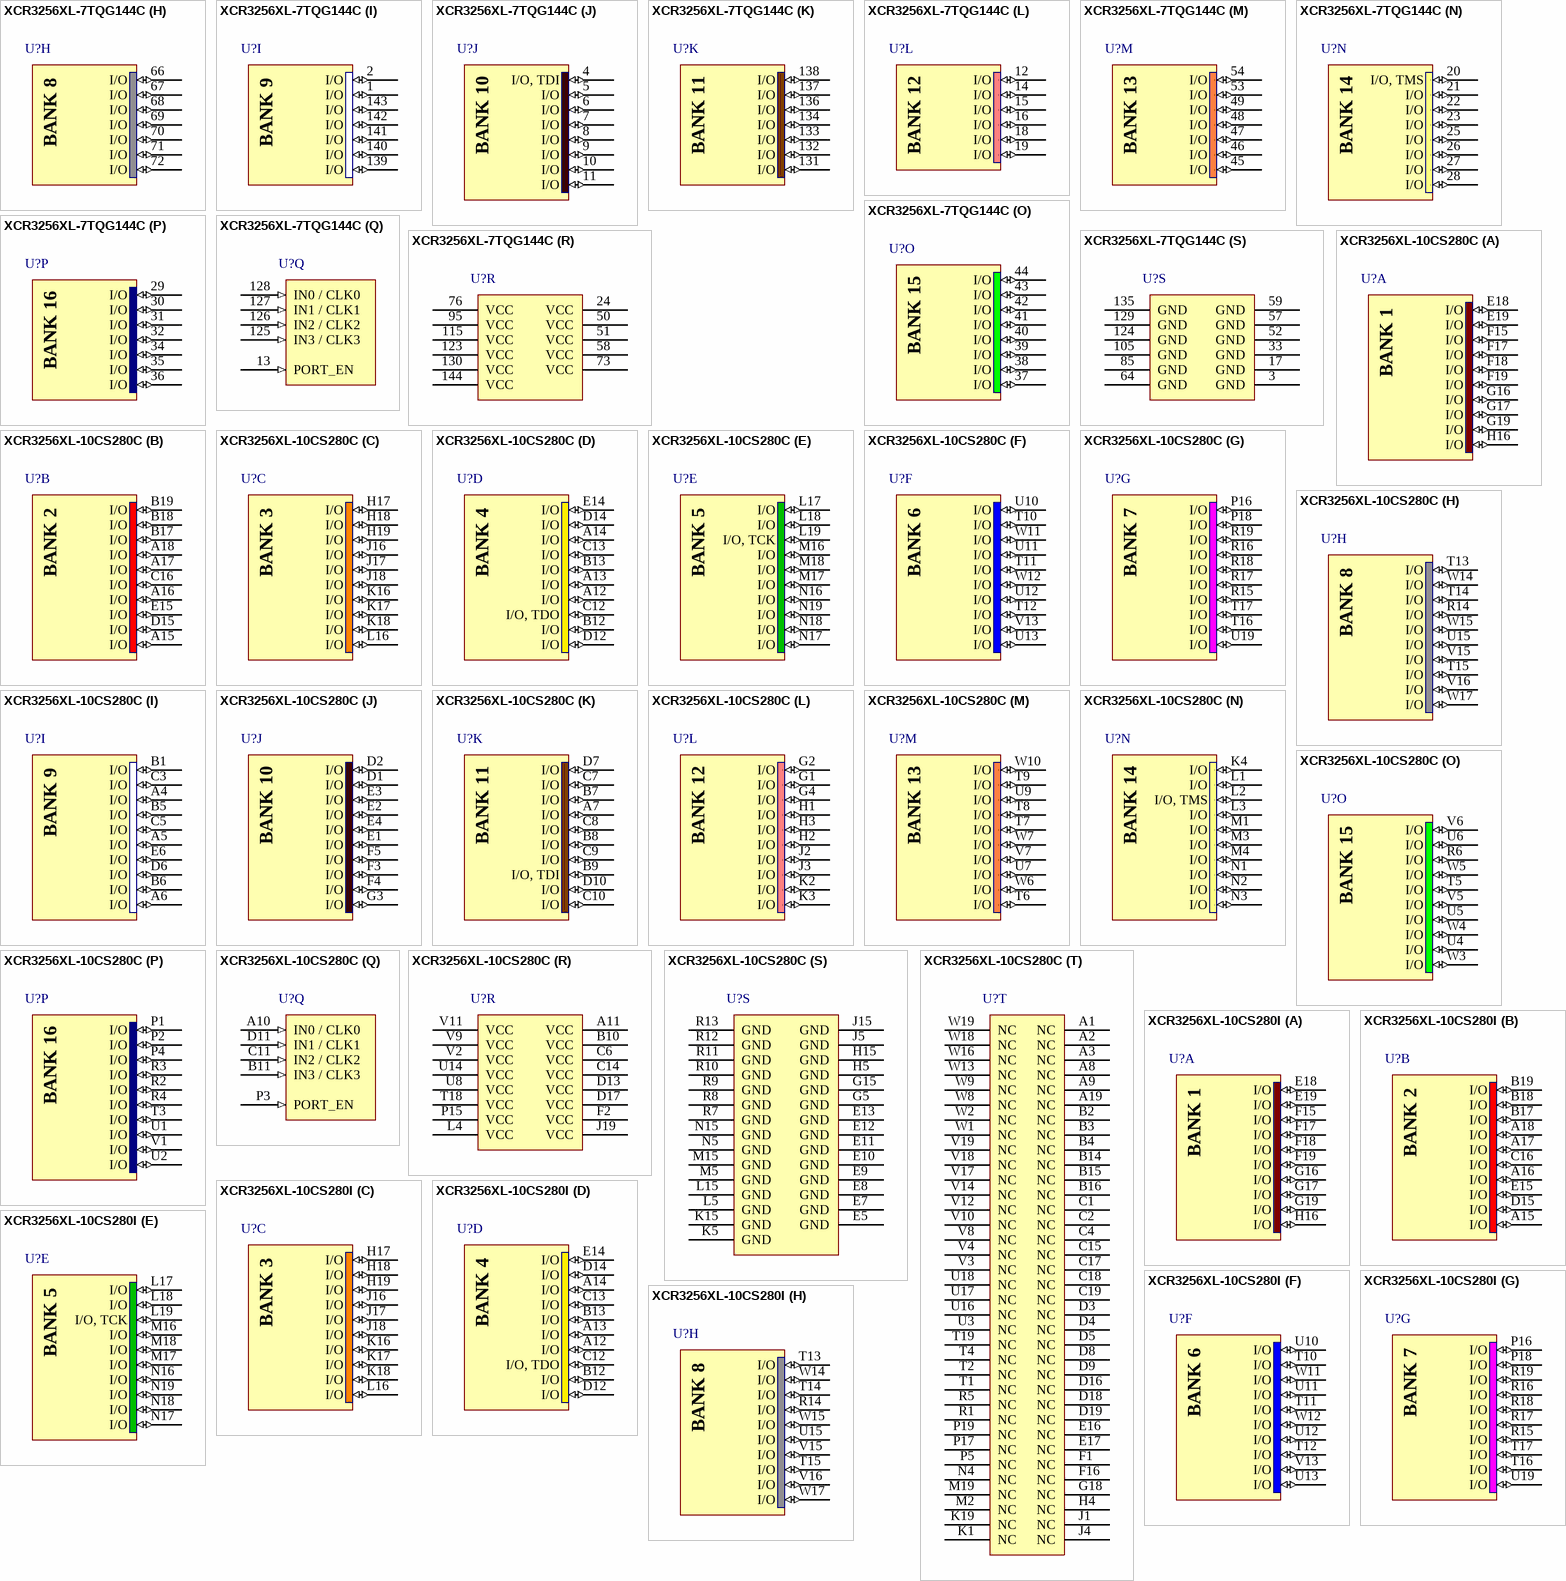
[diagram p26: symbols XCR3256XL-7TQG144C to XCR3256XL-10CS280I]

## XCR3256XL-7TQG144C
designator U?
CoolRunner XPLA3, 3.3V, 256 Macrocell CPLD, 144-Pin TQFP, Commercial Grade, Pb-Free; Published: 6-Oct-2005; LatestRevisionDate: 13-Apr-2006; LatestRevisionNote: IPC-7351 Footprint Added.; DatasheetVersion: ver2.7, Mar-2006; PackageVersion: ver1.2, Jun-2004; PackageReference: TQG144; Publisher: Altium Limited; PackageDescription: 144-Pin Thin Quad Flat Pack (TQG144) - Pb-Free; Code_JEDEC: MS-026-BFB; ComponentLink1Description: Manufacturer Link; ComponentLink1URL: http://www.xilinx.com/products/silicon_solutions/cplds/coolrunner_series/coolrunner_xpla3_cplds/index.htm; ComponentLink2Description: Datasheet; ComponentLink2URL: http://direct.xilinx.com/bvdocs/publications/ds013.pdf
footprint TQG144_N (Thin QFP, 144-Leads, Body 20x20mm, Pitch 0.5mm, IPC Medium Density)
footprint TQG144_L (Thin QFP, 144-Leads, Body 20x20mm, Pitch 0.5mm, IPC High Density)
footprint TQG144_M (Thin QFP, 144-Leads, Body 20x20mm, Pitch 0.5mm, IPC Low Density)
3D model XCR3256XL-TQ144 (144-Pin Thin Quad Flat Pack (TQG144) - Pb-Free)
signal-integrity model XCR3256XL_TQ144 (CoolRunner XPLA3)
part A pins: 99 I/O (io), 100 I/O (io), 101 I/O (io), 102 I/O (io), 103 I/O (io), 104 I/O, TDO (io), 106 I/O (io)
part B pins: 107 I/O (io), 108 I/O (io), 109 I/O (io), 110 I/O (io), 111 I/O (io), 112 I/O (io), 113 I/O (io)
part C pins: 90 I/O (io), 91 I/O (io), 92 I/O (io), 93 I/O (io), 94 I/O (io), 96 I/O (io), 97 I/O (io), 98 I/O (io)
part D pins: 114 I/O (io), 116 I/O (io), 117 I/O (io), 118 I/O (io), 119 I/O (io), 120 I/O (io), 121 I/O (io), 122 I/O (io)
part E pins: 82 I/O (io), 83 I/O (io), 84 I/O (io), 86 I/O (io), 87 I/O (io), 88 I/O (io), 89 I/O, TCK (io)
part F pins: 55 I/O (io), 56 I/O (io), 60 I/O (io), 61 I/O (io), 62 I/O (io), 63 I/O (io), 65 I/O (io)
part G pins: 74 I/O (io), 75 I/O (io), 77 I/O (io), 78 I/O (io), 79 I/O (io), 80 I/O (io), 81 I/O (io)
part H pins: 66 I/O (io), 67 I/O (io), 68 I/O (io), 69 I/O (io), 70 I/O (io), 71 I/O (io), 72 I/O (io)
part I pins: 1 I/O (io), 2 I/O (io), 139 I/O (io), 140 I/O (io), 141 I/O (io), 142 I/O (io), 143 I/O (io)
part J pins: 4 I/O, TDI (io), 5 I/O (io), 6 I/O (io), 7 I/O (io), 8 I/O (io), 9 I/O (io), 10 I/O (io), 11 I/O (io)
part K pins: 131 I/O (io), 132 I/O (io), 133 I/O (io), 134 I/O (io), 136 I/O (io), 137 I/O (io), 138 I/O (io)
part L pins: 12 I/O (io), 14 I/O (io), 15 I/O (io), 16 I/O (io), 18 I/O (io), 19 I/O (io)
part M pins: 45 I/O (io), 46 I/O (io), 47 I/O (io), 48 I/O (io), 49 I/O (io), 53 I/O (io), 54 I/O (io)
part N pins: 20 I/O, TMS (io), 21 I/O (io), 22 I/O (io), 23 I/O (io), 25 I/O (io), 26 I/O (io), 27 I/O (io), 28 I/O (io)
part O pins: 37 I/O (io), 38 I/O (io), 39 I/O (io), 40 I/O (io), 41 I/O (io), 42 I/O (io), 43 I/O (io), 44 I/O (io)
part P pins: 29 I/O (io), 30 I/O (io), 31 I/O (io), 32 I/O (io), 34 I/O (io), 35 I/O (io), 36 I/O (io)
part Q pins: 13 PORT_EN (in), 125 IN3 / CLK3 (in), 126 IN2 / CLK2 (in), 127 IN1 / CLK1 (in), 128 IN0 / CLK0 (in)
part R pins: 24 VCC (power), 50 VCC (power), 51 VCC (power), 58 VCC (power), 73 VCC (power), 76 VCC (power), 95 VCC (power), 115 VCC (power), 123 VCC (power), 130 VCC (power), 144 VCC (power)
part S pins: 3 GND (power), 17 GND (power), 33 GND (power), 52 GND (power), 57 GND (power), 59 GND (power), 64 GND (power), 85 GND (power), 105 GND (power), 124 GND (power), 129 GND (power), 135 GND (power)
part A text: BANK 1
part B text: BANK 2
part C text: BANK 3
part D text: BANK 4
part E text: BANK 5
part F text: BANK 6
part G text: BANK 7
part H text: BANK 8
part I text: BANK 9
part J text: BANK 10
part K text: BANK 11
part L text: BANK 12
part M text: BANK 13
part N text: BANK 14
part O text: BANK 15
part P text: BANK 16

## XCR3256XL-10CS280C
designator U?
CoolRunner XPLA3, 3.3V, 256 Macrocell CPLD, 280-Ball CSBGA, Commercial Grade; Published: 17-Jul-2002; LatestRevisionDate: 13-Apr-2006; LatestRevisionNote: IPC-7351 Footprint Added.; DatasheetVersion: ver2.7, Mar-2006; PackageVersion: ver1.2.2, Nov-2005; PackageReference: CS280; Publisher: Altium Limited; PackageDescription: 280-Ball Chip Scale Ball Grid Array (CS280); Code_JEDEC: MO-216-BAL-1 (Depopulated); ComponentLink1Description: Manufacturer Link; ComponentLink1URL: http://www.xilinx.com/products/silicon_solutions/cplds/coolrunner_series/coolrunner_xpla3_cplds/index.htm; ComponentLink2Description: Datasheet; ComponentLink2URL: http://direct.xilinx.com/bvdocs/publications/ds013.pdf
footprint CS280 (BGA, 280-Leads, Body 16x16mm, Pitch 0.8mm)
3D model XCR3256XL-CS280 (280-Ball Chip Scale Ball Grid Array (CS280))
signal-integrity model XCR3256XL_CS280 (CoolRunner XPLA3)
part A pins: E18 I/O (io), E19 I/O (io), F15 I/O (io), F17 I/O (io), F18 I/O (io), F19 I/O (io), G16 I/O (io), G17 I/O (io), G19 I/O (io), H16 I/O (io)
part B pins: A15 I/O (io), A16 I/O (io), A17 I/O (io), A18 I/O (io), B17 I/O (io), B18 I/O (io), B19 I/O (io), C16 I/O (io), D15 I/O (io), E15 I/O (io)
part C pins: H17 I/O (io), H18 I/O (io), H19 I/O (io), J16 I/O (io), J17 I/O (io), J18 I/O (io), K16 I/O (io), K17 I/O (io), K18 I/O (io), L16 I/O (io)
part D pins: A12 I/O (io), A13 I/O (io), A14 I/O (io), B12 I/O (io), B13 I/O (io), C12 I/O, TDO (io), C13 I/O (io), D12 I/O (io), D14 I/O (io), E14 I/O (io)
part E pins: L17 I/O (io), L18 I/O (io), L19 I/O, TCK (io), M16 I/O (io), M17 I/O (io), M18 I/O (io), N16 I/O (io), N17 I/O (io), N18 I/O (io), N19 I/O (io)
part F pins: T10 I/O (io), T11 I/O (io), T12 I/O (io), U10 I/O (io), U11 I/O (io), U12 I/O (io), U13 I/O (io), V13 I/O (io), W11 I/O (io), W12 I/O (io)
part G pins: P16 I/O (io), P18 I/O (io), R15 I/O (io), R16 I/O (io), R17 I/O (io), R18 I/O (io), R19 I/O (io), T16 I/O (io), T17 I/O (io), U19 I/O (io)
part H pins: R14 I/O (io), T13 I/O (io), T14 I/O (io), T15 I/O (io), U15 I/O (io), V15 I/O (io), V16 I/O (io), W14 I/O (io), W15 I/O (io), W17 I/O (io)
part I pins: A4 I/O (io), A5 I/O (io), A6 I/O (io), B1 I/O (io), B5 I/O (io), B6 I/O (io), C3 I/O (io), C5 I/O (io), D6 I/O (io), E6 I/O (io)
part J pins: D1 I/O (io), D2 I/O (io), E1 I/O (io), E2 I/O (io), E3 I/O (io), E4 I/O (io), F3 I/O (io), F4 I/O (io), F5 I/O (io), G3 I/O (io)
part K pins: A7 I/O (io), B7 I/O (io), B8 I/O (io), B9 I/O, TDI (io), C7 I/O (io), C8 I/O (io), C9 I/O (io), C10 I/O (io), D7 I/O (io), D10 I/O (io)
part L pins: G1 I/O (io), G2 I/O (io), G4 I/O (io), H1 I/O (io), H2 I/O (io), H3 I/O (io), J2 I/O (io), J3 I/O (io), K2 I/O (io), K3 I/O (io)
part M pins: T6 I/O (io), T7 I/O (io), T8 I/O (io), T9 I/O (io), U7 I/O (io), U9 I/O (io), V7 I/O (io), W6 I/O (io), W7 I/O (io), W10 I/O (io)
part N pins: K4 I/O (io), L1 I/O (io), L2 I/O, TMS (io), L3 I/O (io), M1 I/O (io), M3 I/O (io), M4 I/O (io), N1 I/O (io), N2 I/O (io), N3 I/O (io)
part O pins: R6 I/O (io), T5 I/O (io), U4 I/O (io), U5 I/O (io), U6 I/O (io), V5 I/O (io), V6 I/O (io), W3 I/O (io), W4 I/O (io), W5 I/O (io)
part P pins: P1 I/O (io), P2 I/O (io), P4 I/O (io), R2 I/O (io), R3 I/O (io), R4 I/O (io), T3 I/O (io), U1 I/O (io), U2 I/O (io), V1 I/O (io)
part Q pins: A10 IN0 / CLK0 (in), B11 IN3 / CLK3 (in), C11 IN2 / CLK2 (in), D11 IN1 / CLK1 (in), P3 PORT_EN (in)
part R pins: A11 VCC (power), B10 VCC (power), C6 VCC (power), C14 VCC (power), D13 VCC (power), D17 VCC (power), F2 VCC (power), J19 VCC (power), L4 VCC (power), P15 VCC (power), T18 VCC (power), U8 VCC (power), U14 VCC (power), V2 VCC (power), V9 VCC (power), V11 VCC (power)
part S pins: E5 GND (power), E7 GND (power), E8 GND (power), E9 GND (power), E10 GND (power), E11 GND (power), E12 GND (power), E13 GND (power), G5 GND (power), G15 GND (power), H5 GND (power), H15 GND (power), J5 GND (power), J15 GND (power), K5 GND (power), K15 GND (power), L5 GND (power), L15 GND (power), M5 GND (power), M15 GND (power), N5 GND (power), N15 GND (power), R7 GND (power), R8 GND (power), R9 GND (power), R10 GND (power), R11 GND (power), R12 GND (power), R13 GND (power)
part T pins: A1 NC, A2 NC, A3 NC, A8 NC, A9 NC, A19 NC, B2 NC, B3 NC, B4 NC, B14 NC, B15 NC, B16 NC, C1 NC, C2 NC, C4 NC, C15 NC, C17 NC, C18 NC, C19 NC, D3 NC, D4 NC, D5 NC, D8 NC, D9 NC, D16 NC, D18 NC, D19 NC, E16 NC, E17 NC, F1 NC, F16 NC, G18 NC, H4 NC, J1 NC, J4 NC, K1 NC, K19 NC, M2 NC, M19 NC, N4 NC, P5 NC, P17 NC, P19 NC, R1 NC, R5 NC, T1 NC, T2 NC, T4 NC, T19 NC, U3 NC, U16 NC, U17 NC, U18 NC, V3 NC, V4 NC, V8 NC, V10 NC, V12 NC, V14 NC, V17 NC, V18 NC, V19 NC, W1 NC, W2 NC, W8 NC, W9 NC, W13 NC, W16 NC, W18 NC, W19 NC
part A text: BANK 1
part B text: BANK 2
part C text: BANK 3
part D text: BANK 4
part E text: BANK 5
part F text: BANK 6
part G text: BANK 7
part H text: BANK 8
part I text: BANK 9
part J text: BANK 10
part K text: BANK 11
part L text: BANK 12
part M text: BANK 13
part N text: BANK 14
part O text: BANK 15
part P text: BANK 16

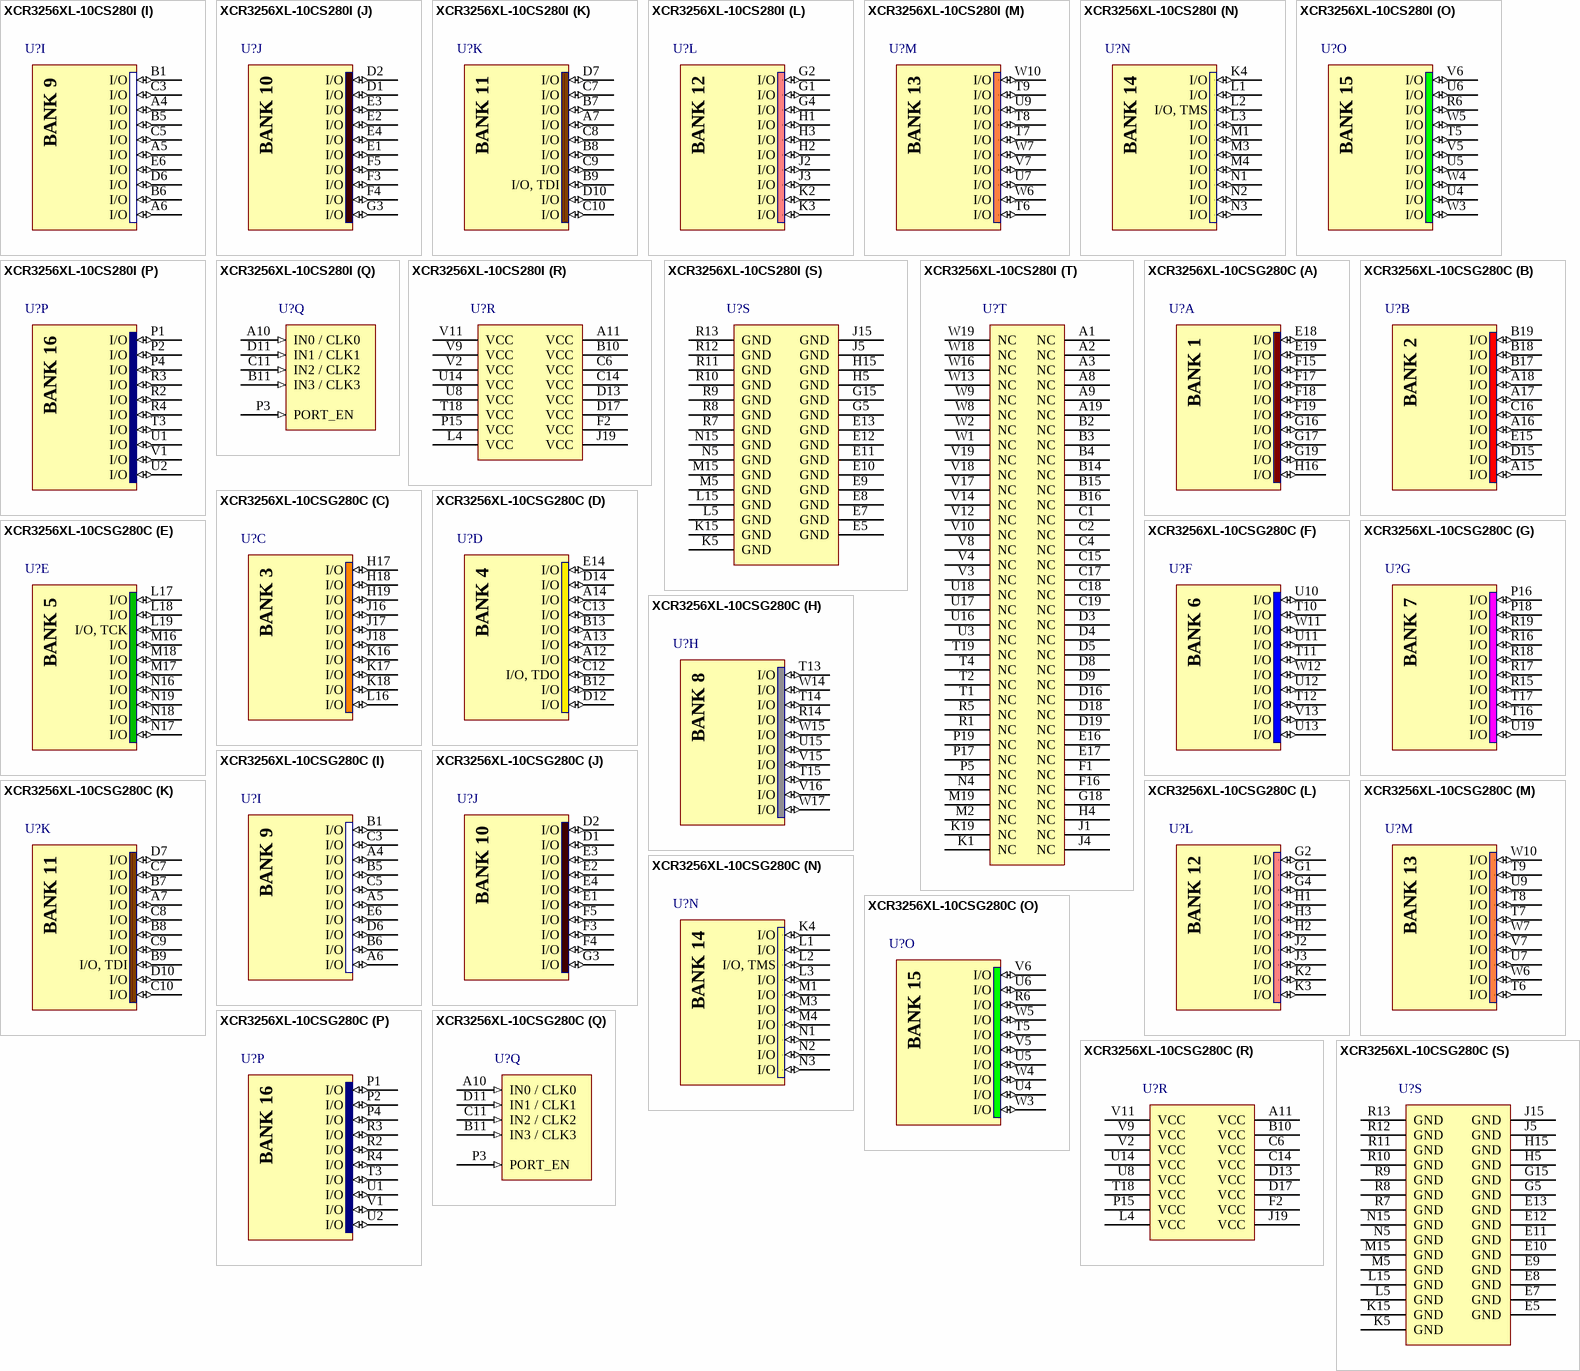
[diagram p27: symbols XCR3256XL-10CS280I to XCR3256XL-10CSG280C]

## XCR3256XL-10CS280I
designator U?
CoolRunner XPLA3, 3.3V, 256 Macrocell CPLD, 280-Ball CSBGA, Industrial Grade; Published: 17-Jul-2002; LatestRevisionDate: 13-Apr-2006; LatestRevisionNote: IPC-7351 Footprint Added.; DatasheetVersion: ver2.7, Mar-2006; PackageVersion: ver1.2.2, Nov-2005; PackageReference: CS280; Publisher: Altium Limited; PackageDescription: 280-Ball Chip Scale Ball Grid Array (CS280); Code_JEDEC: MO-216-BAL-1 (Depopulated); ComponentLink1Description: Manufacturer Link; ComponentLink1URL: http://www.xilinx.com/products/silicon_solutions/cplds/coolrunner_series/coolrunner_xpla3_cplds/index.htm; ComponentLink2Description: Datasheet; ComponentLink2URL: http://direct.xilinx.com/bvdocs/publications/ds013.pdf
footprint CS280 (BGA, 280-Leads, Body 16x16mm, Pitch 0.8mm)
3D model XCR3256XL-CS280 (280-Ball Chip Scale Ball Grid Array (CS280))
signal-integrity model XCR3256XL_CS280 (CoolRunner XPLA3)
part A pins: E18 I/O (io), E19 I/O (io), F15 I/O (io), F17 I/O (io), F18 I/O (io), F19 I/O (io), G16 I/O (io), G17 I/O (io), G19 I/O (io), H16 I/O (io)
part B pins: A15 I/O (io), A16 I/O (io), A17 I/O (io), A18 I/O (io), B17 I/O (io), B18 I/O (io), B19 I/O (io), C16 I/O (io), D15 I/O (io), E15 I/O (io)
part C pins: H17 I/O (io), H18 I/O (io), H19 I/O (io), J16 I/O (io), J17 I/O (io), J18 I/O (io), K16 I/O (io), K17 I/O (io), K18 I/O (io), L16 I/O (io)
part D pins: A12 I/O (io), A13 I/O (io), A14 I/O (io), B12 I/O (io), B13 I/O (io), C12 I/O, TDO (io), C13 I/O (io), D12 I/O (io), D14 I/O (io), E14 I/O (io)
part E pins: L17 I/O (io), L18 I/O (io), L19 I/O, TCK (io), M16 I/O (io), M17 I/O (io), M18 I/O (io), N16 I/O (io), N17 I/O (io), N18 I/O (io), N19 I/O (io)
part F pins: T10 I/O (io), T11 I/O (io), T12 I/O (io), U10 I/O (io), U11 I/O (io), U12 I/O (io), U13 I/O (io), V13 I/O (io), W11 I/O (io), W12 I/O (io)
part G pins: P16 I/O (io), P18 I/O (io), R15 I/O (io), R16 I/O (io), R17 I/O (io), R18 I/O (io), R19 I/O (io), T16 I/O (io), T17 I/O (io), U19 I/O (io)
part H pins: R14 I/O (io), T13 I/O (io), T14 I/O (io), T15 I/O (io), U15 I/O (io), V15 I/O (io), V16 I/O (io), W14 I/O (io), W15 I/O (io), W17 I/O (io)
part I pins: A4 I/O (io), A5 I/O (io), A6 I/O (io), B1 I/O (io), B5 I/O (io), B6 I/O (io), C3 I/O (io), C5 I/O (io), D6 I/O (io), E6 I/O (io)
part J pins: D1 I/O (io), D2 I/O (io), E1 I/O (io), E2 I/O (io), E3 I/O (io), E4 I/O (io), F3 I/O (io), F4 I/O (io), F5 I/O (io), G3 I/O (io)
part K pins: A7 I/O (io), B7 I/O (io), B8 I/O (io), B9 I/O, TDI (io), C7 I/O (io), C8 I/O (io), C9 I/O (io), C10 I/O (io), D7 I/O (io), D10 I/O (io)
part L pins: G1 I/O (io), G2 I/O (io), G4 I/O (io), H1 I/O (io), H2 I/O (io), H3 I/O (io), J2 I/O (io), J3 I/O (io), K2 I/O (io), K3 I/O (io)
part M pins: T6 I/O (io), T7 I/O (io), T8 I/O (io), T9 I/O (io), U7 I/O (io), U9 I/O (io), V7 I/O (io), W6 I/O (io), W7 I/O (io), W10 I/O (io)
part N pins: K4 I/O (io), L1 I/O (io), L2 I/O, TMS (io), L3 I/O (io), M1 I/O (io), M3 I/O (io), M4 I/O (io), N1 I/O (io), N2 I/O (io), N3 I/O (io)
part O pins: R6 I/O (io), T5 I/O (io), U4 I/O (io), U5 I/O (io), U6 I/O (io), V5 I/O (io), V6 I/O (io), W3 I/O (io), W4 I/O (io), W5 I/O (io)
part P pins: P1 I/O (io), P2 I/O (io), P4 I/O (io), R2 I/O (io), R3 I/O (io), R4 I/O (io), T3 I/O (io), U1 I/O (io), U2 I/O (io), V1 I/O (io)
part Q pins: A10 IN0 / CLK0 (in), B11 IN3 / CLK3 (in), C11 IN2 / CLK2 (in), D11 IN1 / CLK1 (in), P3 PORT_EN (in)
part R pins: A11 VCC (power), B10 VCC (power), C6 VCC (power), C14 VCC (power), D13 VCC (power), D17 VCC (power), F2 VCC (power), J19 VCC (power), L4 VCC (power), P15 VCC (power), T18 VCC (power), U8 VCC (power), U14 VCC (power), V2 VCC (power), V9 VCC (power), V11 VCC (power)
part S pins: E5 GND (power), E7 GND (power), E8 GND (power), E9 GND (power), E10 GND (power), E11 GND (power), E12 GND (power), E13 GND (power), G5 GND (power), G15 GND (power), H5 GND (power), H15 GND (power), J5 GND (power), J15 GND (power), K5 GND (power), K15 GND (power), L5 GND (power), L15 GND (power), M5 GND (power), M15 GND (power), N5 GND (power), N15 GND (power), R7 GND (power), R8 GND (power), R9 GND (power), R10 GND (power), R11 GND (power), R12 GND (power), R13 GND (power)
part T pins: A1 NC, A2 NC, A3 NC, A8 NC, A9 NC, A19 NC, B2 NC, B3 NC, B4 NC, B14 NC, B15 NC, B16 NC, C1 NC, C2 NC, C4 NC, C15 NC, C17 NC, C18 NC, C19 NC, D3 NC, D4 NC, D5 NC, D8 NC, D9 NC, D16 NC, D18 NC, D19 NC, E16 NC, E17 NC, F1 NC, F16 NC, G18 NC, H4 NC, J1 NC, J4 NC, K1 NC, K19 NC, M2 NC, M19 NC, N4 NC, P5 NC, P17 NC, P19 NC, R1 NC, R5 NC, T1 NC, T2 NC, T4 NC, T19 NC, U3 NC, U16 NC, U17 NC, U18 NC, V3 NC, V4 NC, V8 NC, V10 NC, V12 NC, V14 NC, V17 NC, V18 NC, V19 NC, W1 NC, W2 NC, W8 NC, W9 NC, W13 NC, W16 NC, W18 NC, W19 NC
part A text: BANK 1
part B text: BANK 2
part C text: BANK 3
part D text: BANK 4
part E text: BANK 5
part F text: BANK 6
part G text: BANK 7
part H text: BANK 8
part I text: BANK 9
part J text: BANK 10
part K text: BANK 11
part L text: BANK 12
part M text: BANK 13
part N text: BANK 14
part O text: BANK 15
part P text: BANK 16

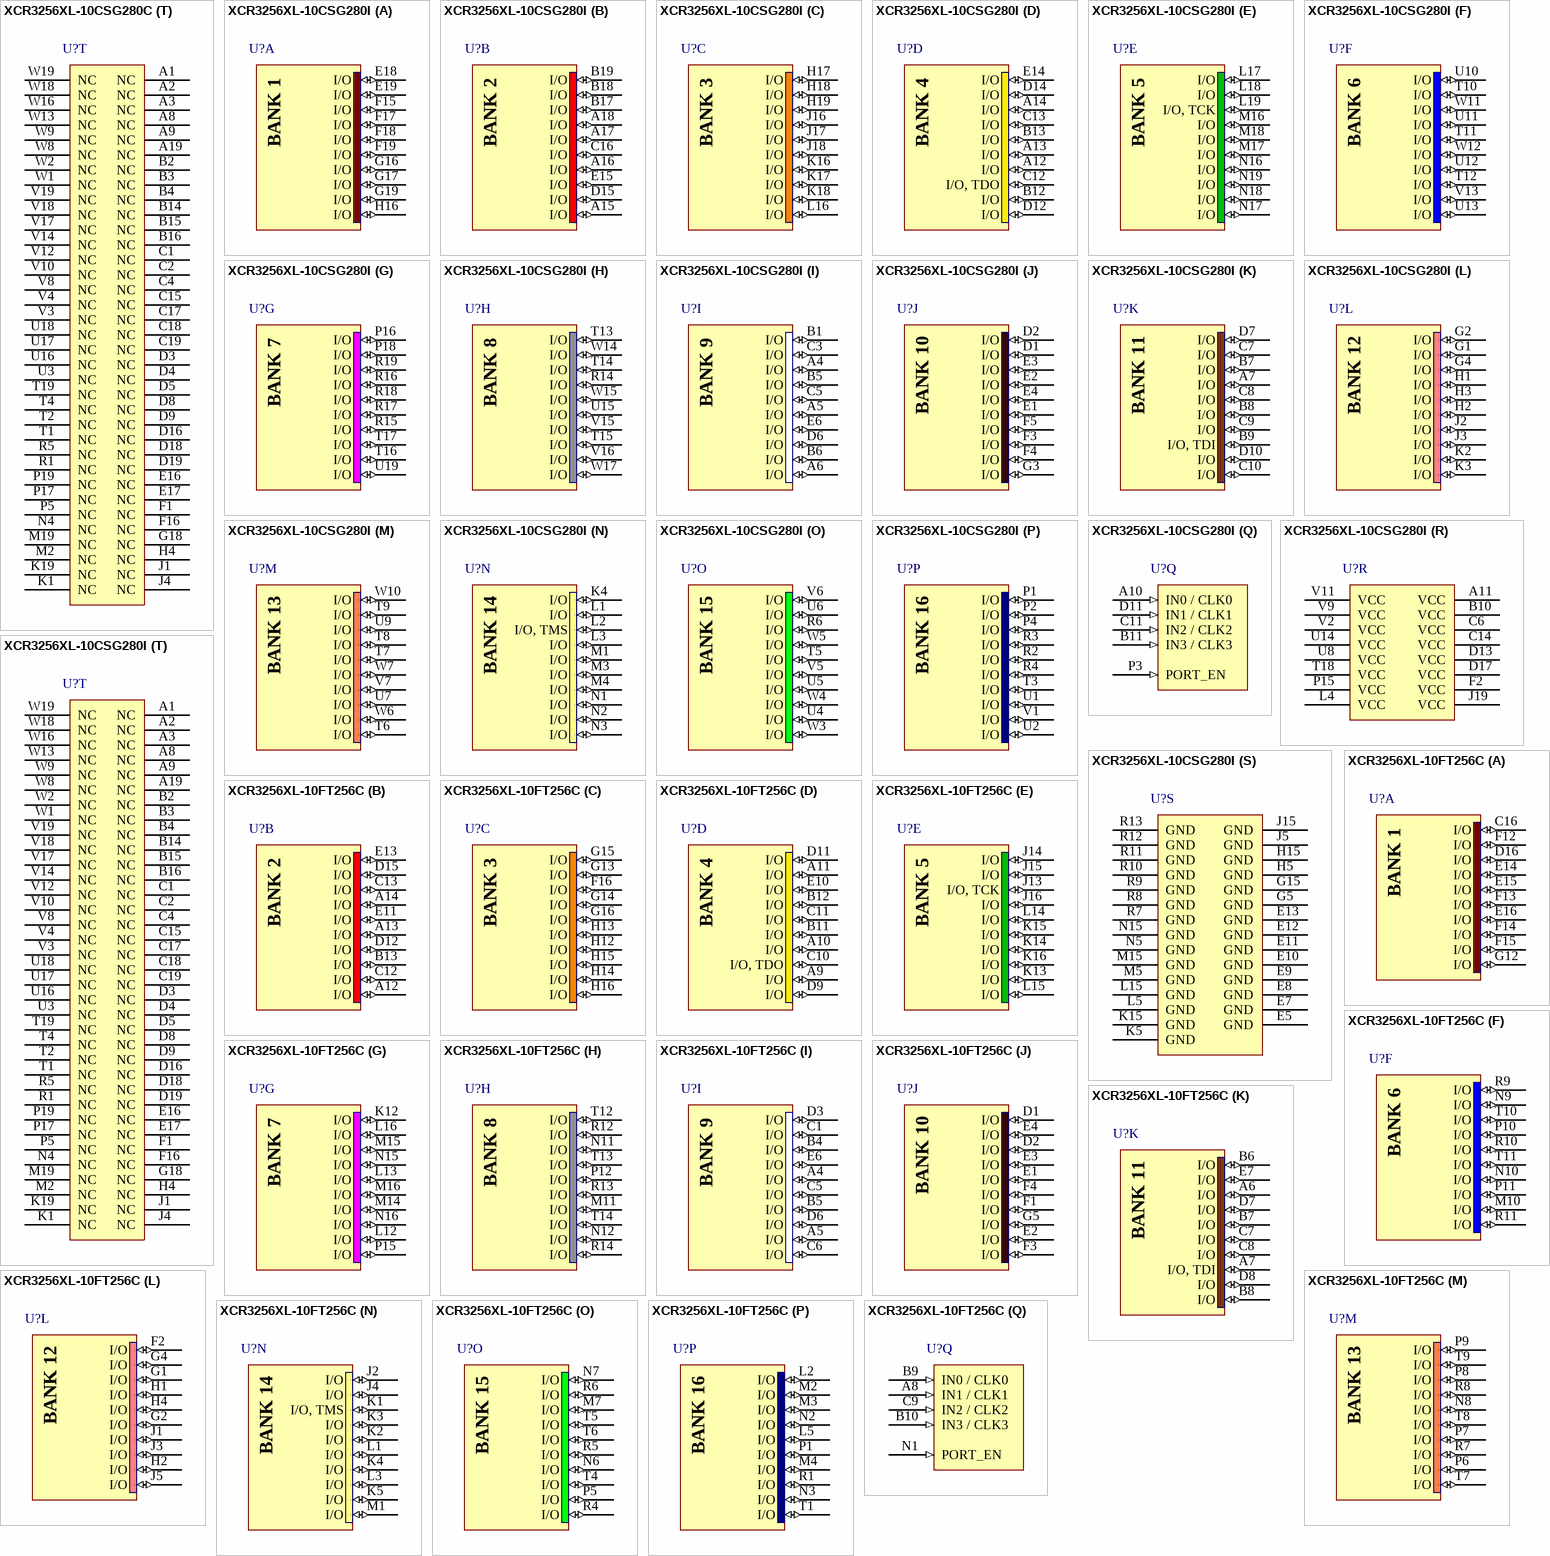
[diagram p28: symbols XCR3256XL-10CSG280C to XCR3256XL-10FT256C]

## XCR3256XL-10CSG280C
designator U?
CoolRunner XPLA3, 3.3V, 256 Macrocell CPLD, 280-Ball CSBGA, Commercial Grade, Pb-Free; Published: 6-Oct-2005; LatestRevisionDate: 13-Apr-2006; LatestRevisionNote: IPC-7351 Footprint Added.; DatasheetVersion: ver2.7, Mar-2006; PackageVersion: ver1.2.2, Nov-2005; PackageReference: CSG280; Publisher: Altium Limited; PackageDescription: 280-Ball Chip Scale Ball Grid Array (CSG280) - Pb-Free; Code_JEDEC: MO-216-BAL-1 (Depopulated); ComponentLink1Description: Manufacturer Link; ComponentLink1URL: http://www.xilinx.com/products/silicon_solutions/cplds/coolrunner_series/coolrunner_xpla3_cplds/index.htm; ComponentLink2Description: Datasheet; ComponentLink2URL: http://direct.xilinx.com/bvdocs/publications/ds013.pdf
footprint CSG280 (BGA, 280-Leads, Body 16x16mm, Pitch 0.8mm)
3D model XCR3256XL-CS280 (280-Ball Chip Scale Ball Grid Array (CSG280) - Pb-Free)
signal-integrity model XCR3256XL_CS280 (CoolRunner XPLA3)
part A pins: E18 I/O (io), E19 I/O (io), F15 I/O (io), F17 I/O (io), F18 I/O (io), F19 I/O (io), G16 I/O (io), G17 I/O (io), G19 I/O (io), H16 I/O (io)
part B pins: A15 I/O (io), A16 I/O (io), A17 I/O (io), A18 I/O (io), B17 I/O (io), B18 I/O (io), B19 I/O (io), C16 I/O (io), D15 I/O (io), E15 I/O (io)
part C pins: H17 I/O (io), H18 I/O (io), H19 I/O (io), J16 I/O (io), J17 I/O (io), J18 I/O (io), K16 I/O (io), K17 I/O (io), K18 I/O (io), L16 I/O (io)
part D pins: A12 I/O (io), A13 I/O (io), A14 I/O (io), B12 I/O (io), B13 I/O (io), C12 I/O, TDO (io), C13 I/O (io), D12 I/O (io), D14 I/O (io), E14 I/O (io)
part E pins: L17 I/O (io), L18 I/O (io), L19 I/O, TCK (io), M16 I/O (io), M17 I/O (io), M18 I/O (io), N16 I/O (io), N17 I/O (io), N18 I/O (io), N19 I/O (io)
part F pins: T10 I/O (io), T11 I/O (io), T12 I/O (io), U10 I/O (io), U11 I/O (io), U12 I/O (io), U13 I/O (io), V13 I/O (io), W11 I/O (io), W12 I/O (io)
part G pins: P16 I/O (io), P18 I/O (io), R15 I/O (io), R16 I/O (io), R17 I/O (io), R18 I/O (io), R19 I/O (io), T16 I/O (io), T17 I/O (io), U19 I/O (io)
part H pins: R14 I/O (io), T13 I/O (io), T14 I/O (io), T15 I/O (io), U15 I/O (io), V15 I/O (io), V16 I/O (io), W14 I/O (io), W15 I/O (io), W17 I/O (io)
part I pins: A4 I/O (io), A5 I/O (io), A6 I/O (io), B1 I/O (io), B5 I/O (io), B6 I/O (io), C3 I/O (io), C5 I/O (io), D6 I/O (io), E6 I/O (io)
part J pins: D1 I/O (io), D2 I/O (io), E1 I/O (io), E2 I/O (io), E3 I/O (io), E4 I/O (io), F3 I/O (io), F4 I/O (io), F5 I/O (io), G3 I/O (io)
part K pins: A7 I/O (io), B7 I/O (io), B8 I/O (io), B9 I/O, TDI (io), C7 I/O (io), C8 I/O (io), C9 I/O (io), C10 I/O (io), D7 I/O (io), D10 I/O (io)
part L pins: G1 I/O (io), G2 I/O (io), G4 I/O (io), H1 I/O (io), H2 I/O (io), H3 I/O (io), J2 I/O (io), J3 I/O (io), K2 I/O (io), K3 I/O (io)
part M pins: T6 I/O (io), T7 I/O (io), T8 I/O (io), T9 I/O (io), U7 I/O (io), U9 I/O (io), V7 I/O (io), W6 I/O (io), W7 I/O (io), W10 I/O (io)
part N pins: K4 I/O (io), L1 I/O (io), L2 I/O, TMS (io), L3 I/O (io), M1 I/O (io), M3 I/O (io), M4 I/O (io), N1 I/O (io), N2 I/O (io), N3 I/O (io)
part O pins: R6 I/O (io), T5 I/O (io), U4 I/O (io), U5 I/O (io), U6 I/O (io), V5 I/O (io), V6 I/O (io), W3 I/O (io), W4 I/O (io), W5 I/O (io)
part P pins: P1 I/O (io), P2 I/O (io), P4 I/O (io), R2 I/O (io), R3 I/O (io), R4 I/O (io), T3 I/O (io), U1 I/O (io), U2 I/O (io), V1 I/O (io)
part Q pins: A10 IN0 / CLK0 (in), B11 IN3 / CLK3 (in), C11 IN2 / CLK2 (in), D11 IN1 / CLK1 (in), P3 PORT_EN (in)
part R pins: A11 VCC (power), B10 VCC (power), C6 VCC (power), C14 VCC (power), D13 VCC (power), D17 VCC (power), F2 VCC (power), J19 VCC (power), L4 VCC (power), P15 VCC (power), T18 VCC (power), U8 VCC (power), U14 VCC (power), V2 VCC (power), V9 VCC (power), V11 VCC (power)
part S pins: E5 GND (power), E7 GND (power), E8 GND (power), E9 GND (power), E10 GND (power), E11 GND (power), E12 GND (power), E13 GND (power), G5 GND (power), G15 GND (power), H5 GND (power), H15 GND (power), J5 GND (power), J15 GND (power), K5 GND (power), K15 GND (power), L5 GND (power), L15 GND (power), M5 GND (power), M15 GND (power), N5 GND (power), N15 GND (power), R7 GND (power), R8 GND (power), R9 GND (power), R10 GND (power), R11 GND (power), R12 GND (power), R13 GND (power)
part T pins: A1 NC, A2 NC, A3 NC, A8 NC, A9 NC, A19 NC, B2 NC, B3 NC, B4 NC, B14 NC, B15 NC, B16 NC, C1 NC, C2 NC, C4 NC, C15 NC, C17 NC, C18 NC, C19 NC, D3 NC, D4 NC, D5 NC, D8 NC, D9 NC, D16 NC, D18 NC, D19 NC, E16 NC, E17 NC, F1 NC, F16 NC, G18 NC, H4 NC, J1 NC, J4 NC, K1 NC, K19 NC, M2 NC, M19 NC, N4 NC, P5 NC, P17 NC, P19 NC, R1 NC, R5 NC, T1 NC, T2 NC, T4 NC, T19 NC, U3 NC, U16 NC, U17 NC, U18 NC, V3 NC, V4 NC, V8 NC, V10 NC, V12 NC, V14 NC, V17 NC, V18 NC, V19 NC, W1 NC, W2 NC, W8 NC, W9 NC, W13 NC, W16 NC, W18 NC, W19 NC
part A text: BANK 1
part B text: BANK 2
part C text: BANK 3
part D text: BANK 4
part E text: BANK 5
part F text: BANK 6
part G text: BANK 7
part H text: BANK 8
part I text: BANK 9
part J text: BANK 10
part K text: BANK 11
part L text: BANK 12
part M text: BANK 13
part N text: BANK 14
part O text: BANK 15
part P text: BANK 16

## XCR3256XL-10CSG280I
designator U?
CoolRunner XPLA3, 3.3V, 256 Macrocell CPLD, 280-Ball CSBGA, Industrial Grade, Pb-Free; Published: 6-Oct-2005; LatestRevisionDate: 13-Apr-2006; LatestRevisionNote: IPC-7351 Footprint Added.; DatasheetVersion: ver2.7, Mar-2006; PackageVersion: ver1.2.2, Nov-2005; PackageReference: CSG280; Publisher: Altium Limited; PackageDescription: 280-Ball Chip Scale Ball Grid Array (CSG280) - Pb-Free; Code_JEDEC: MO-216-BAL-1 (Depopulated); ComponentLink1Description: Manufacturer Link; ComponentLink1URL: http://www.xilinx.com/products/silicon_solutions/cplds/coolrunner_series/coolrunner_xpla3_cplds/index.htm; ComponentLink2Description: Datasheet; ComponentLink2URL: http://direct.xilinx.com/bvdocs/publications/ds013.pdf
footprint CSG280 (BGA, 280-Leads, Body 16x16mm, Pitch 0.8mm)
3D model XCR3256XL-CS280 (280-Ball Chip Scale Ball Grid Array (CSG280) - Pb-Free)
signal-integrity model XCR3256XL_CS280 (CoolRunner XPLA3)
part A pins: E18 I/O (io), E19 I/O (io), F15 I/O (io), F17 I/O (io), F18 I/O (io), F19 I/O (io), G16 I/O (io), G17 I/O (io), G19 I/O (io), H16 I/O (io)
part B pins: A15 I/O (io), A16 I/O (io), A17 I/O (io), A18 I/O (io), B17 I/O (io), B18 I/O (io), B19 I/O (io), C16 I/O (io), D15 I/O (io), E15 I/O (io)
part C pins: H17 I/O (io), H18 I/O (io), H19 I/O (io), J16 I/O (io), J17 I/O (io), J18 I/O (io), K16 I/O (io), K17 I/O (io), K18 I/O (io), L16 I/O (io)
part D pins: A12 I/O (io), A13 I/O (io), A14 I/O (io), B12 I/O (io), B13 I/O (io), C12 I/O, TDO (io), C13 I/O (io), D12 I/O (io), D14 I/O (io), E14 I/O (io)
part E pins: L17 I/O (io), L18 I/O (io), L19 I/O, TCK (io), M16 I/O (io), M17 I/O (io), M18 I/O (io), N16 I/O (io), N17 I/O (io), N18 I/O (io), N19 I/O (io)
part F pins: T10 I/O (io), T11 I/O (io), T12 I/O (io), U10 I/O (io), U11 I/O (io), U12 I/O (io), U13 I/O (io), V13 I/O (io), W11 I/O (io), W12 I/O (io)
part G pins: P16 I/O (io), P18 I/O (io), R15 I/O (io), R16 I/O (io), R17 I/O (io), R18 I/O (io), R19 I/O (io), T16 I/O (io), T17 I/O (io), U19 I/O (io)
part H pins: R14 I/O (io), T13 I/O (io), T14 I/O (io), T15 I/O (io), U15 I/O (io), V15 I/O (io), V16 I/O (io), W14 I/O (io), W15 I/O (io), W17 I/O (io)
part I pins: A4 I/O (io), A5 I/O (io), A6 I/O (io), B1 I/O (io), B5 I/O (io), B6 I/O (io), C3 I/O (io), C5 I/O (io), D6 I/O (io), E6 I/O (io)
part J pins: D1 I/O (io), D2 I/O (io), E1 I/O (io), E2 I/O (io), E3 I/O (io), E4 I/O (io), F3 I/O (io), F4 I/O (io), F5 I/O (io), G3 I/O (io)
part K pins: A7 I/O (io), B7 I/O (io), B8 I/O (io), B9 I/O, TDI (io), C7 I/O (io), C8 I/O (io), C9 I/O (io), C10 I/O (io), D7 I/O (io), D10 I/O (io)
part L pins: G1 I/O (io), G2 I/O (io), G4 I/O (io), H1 I/O (io), H2 I/O (io), H3 I/O (io), J2 I/O (io), J3 I/O (io), K2 I/O (io), K3 I/O (io)
part M pins: T6 I/O (io), T7 I/O (io), T8 I/O (io), T9 I/O (io), U7 I/O (io), U9 I/O (io), V7 I/O (io), W6 I/O (io), W7 I/O (io), W10 I/O (io)
part N pins: K4 I/O (io), L1 I/O (io), L2 I/O, TMS (io), L3 I/O (io), M1 I/O (io), M3 I/O (io), M4 I/O (io), N1 I/O (io), N2 I/O (io), N3 I/O (io)
part O pins: R6 I/O (io), T5 I/O (io), U4 I/O (io), U5 I/O (io), U6 I/O (io), V5 I/O (io), V6 I/O (io), W3 I/O (io), W4 I/O (io), W5 I/O (io)
part P pins: P1 I/O (io), P2 I/O (io), P4 I/O (io), R2 I/O (io), R3 I/O (io), R4 I/O (io), T3 I/O (io), U1 I/O (io), U2 I/O (io), V1 I/O (io)
part Q pins: A10 IN0 / CLK0 (in), B11 IN3 / CLK3 (in), C11 IN2 / CLK2 (in), D11 IN1 / CLK1 (in), P3 PORT_EN (in)
part R pins: A11 VCC (power), B10 VCC (power), C6 VCC (power), C14 VCC (power), D13 VCC (power), D17 VCC (power), F2 VCC (power), J19 VCC (power), L4 VCC (power), P15 VCC (power), T18 VCC (power), U8 VCC (power), U14 VCC (power), V2 VCC (power), V9 VCC (power), V11 VCC (power)
part S pins: E5 GND (power), E7 GND (power), E8 GND (power), E9 GND (power), E10 GND (power), E11 GND (power), E12 GND (power), E13 GND (power), G5 GND (power), G15 GND (power), H5 GND (power), H15 GND (power), J5 GND (power), J15 GND (power), K5 GND (power), K15 GND (power), L5 GND (power), L15 GND (power), M5 GND (power), M15 GND (power), N5 GND (power), N15 GND (power), R7 GND (power), R8 GND (power), R9 GND (power), R10 GND (power), R11 GND (power), R12 GND (power), R13 GND (power)
part T pins: A1 NC, A2 NC, A3 NC, A8 NC, A9 NC, A19 NC, B2 NC, B3 NC, B4 NC, B14 NC, B15 NC, B16 NC, C1 NC, C2 NC, C4 NC, C15 NC, C17 NC, C18 NC, C19 NC, D3 NC, D4 NC, D5 NC, D8 NC, D9 NC, D16 NC, D18 NC, D19 NC, E16 NC, E17 NC, F1 NC, F16 NC, G18 NC, H4 NC, J1 NC, J4 NC, K1 NC, K19 NC, M2 NC, M19 NC, N4 NC, P5 NC, P17 NC, P19 NC, R1 NC, R5 NC, T1 NC, T2 NC, T4 NC, T19 NC, U3 NC, U16 NC, U17 NC, U18 NC, V3 NC, V4 NC, V8 NC, V10 NC, V12 NC, V14 NC, V17 NC, V18 NC, V19 NC, W1 NC, W2 NC, W8 NC, W9 NC, W13 NC, W16 NC, W18 NC, W19 NC
part A text: BANK 1
part B text: BANK 2
part C text: BANK 3
part D text: BANK 4
part E text: BANK 5
part F text: BANK 6
part G text: BANK 7
part H text: BANK 8
part I text: BANK 9
part J text: BANK 10
part K text: BANK 11
part L text: BANK 12
part M text: BANK 13
part N text: BANK 14
part O text: BANK 15
part P text: BANK 16

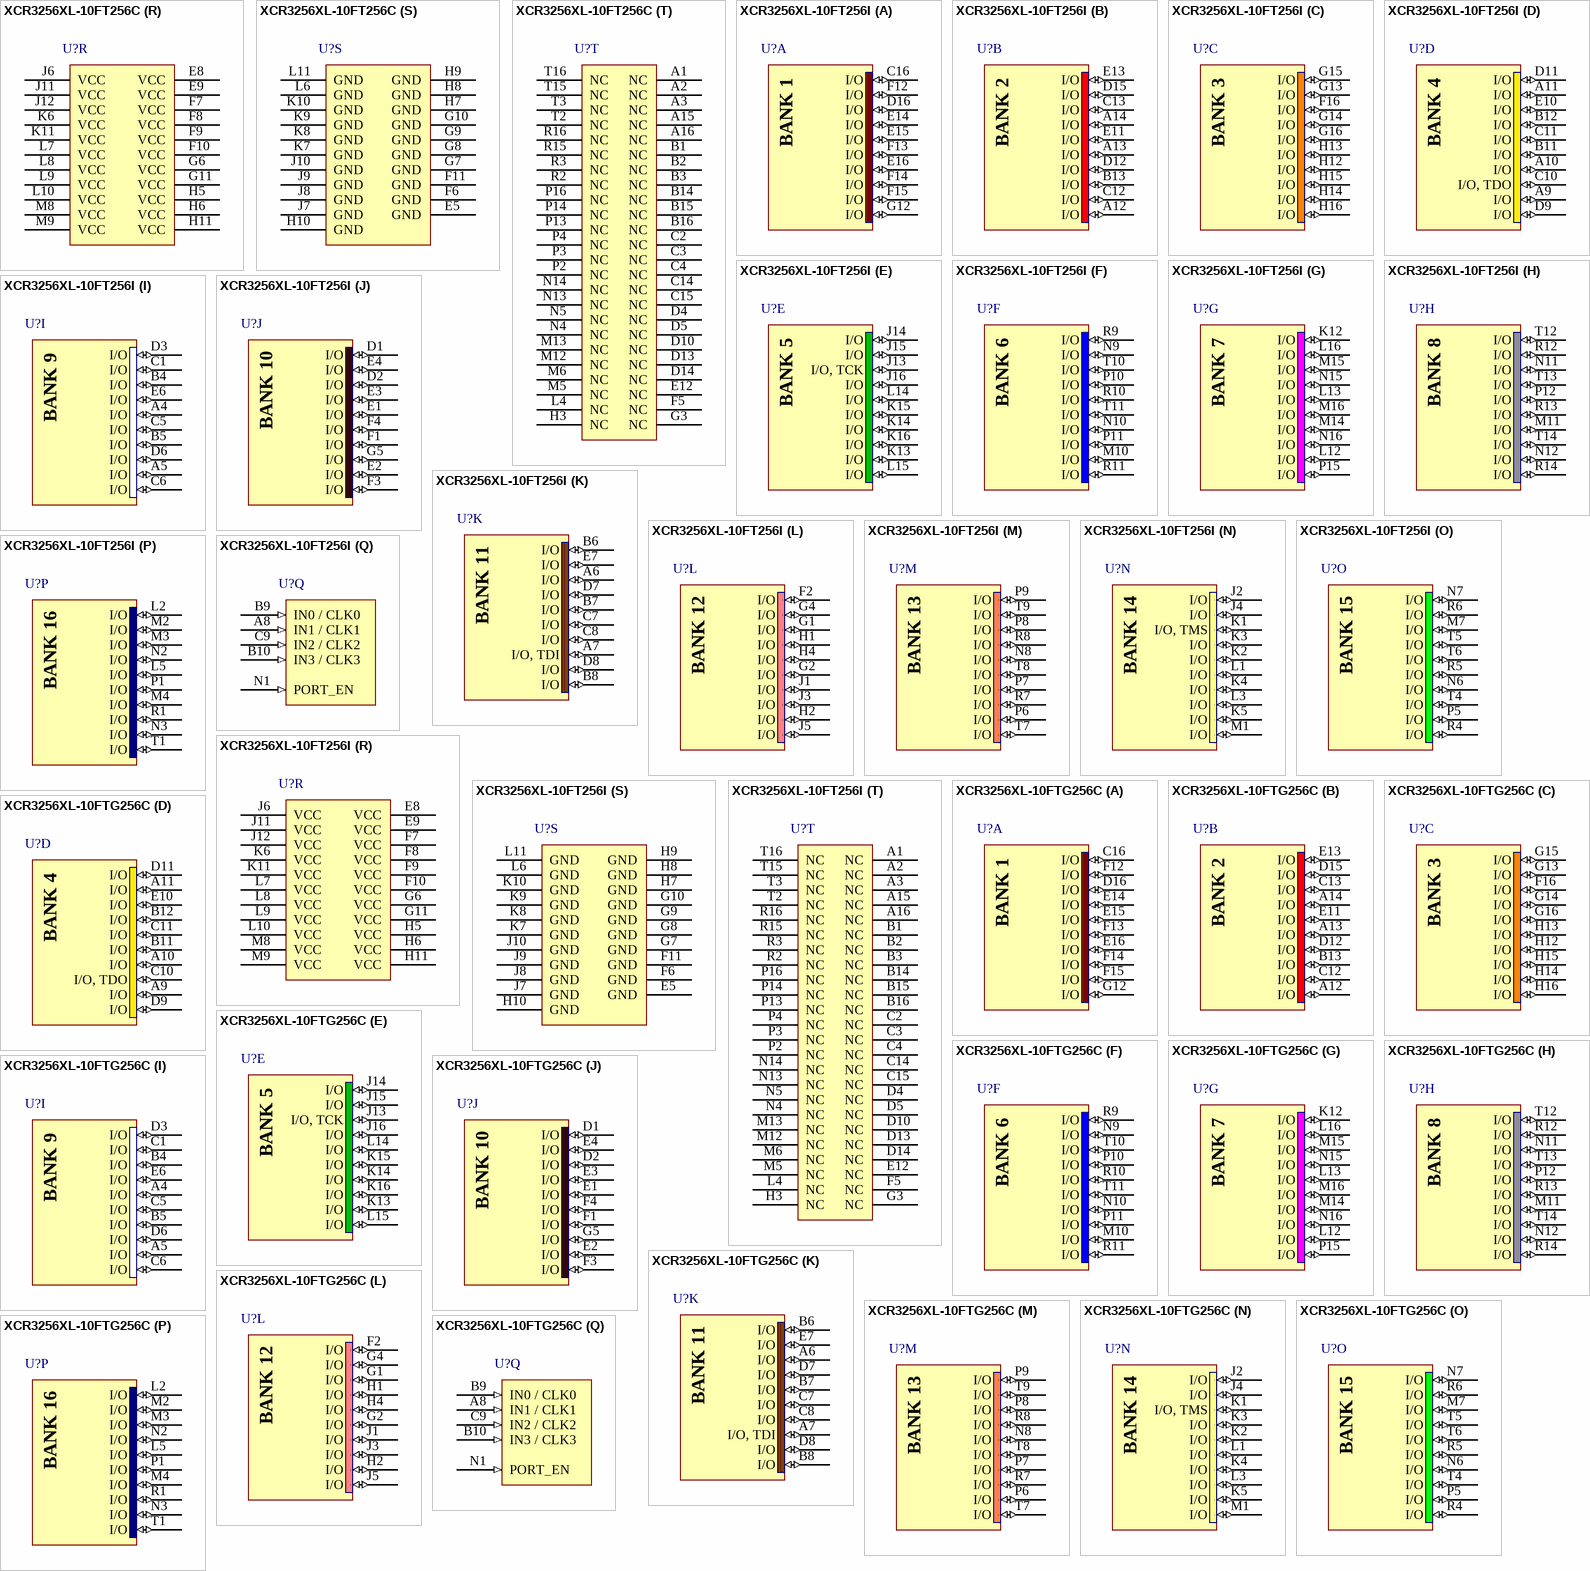
[diagram p29: symbols XCR3256XL-10FT256C to XCR3256XL-10FTG256C]